# Altium schematic symbol library 2.1 - STM32系列单片机.SchLib: 370 symbols (part 10 of 21)
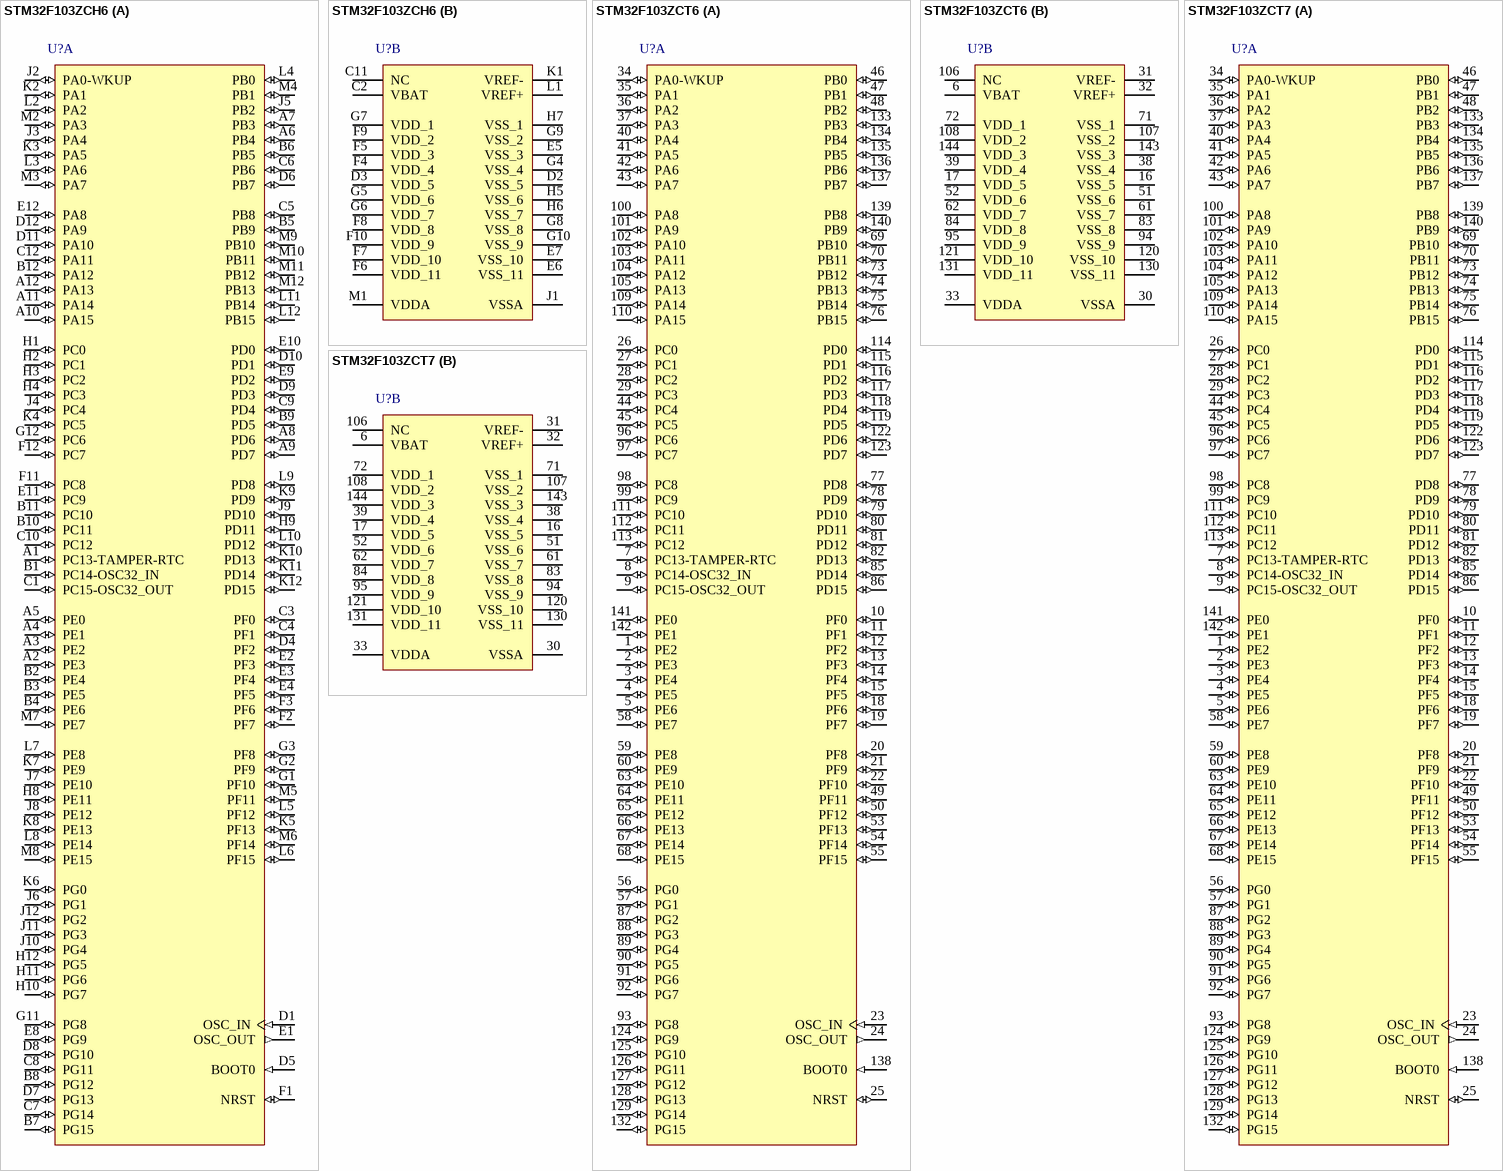
[diagram p107: symbols STM32F103ZCH6 to STM32F103ZCT7]

## STM32F103ZCT6
designator U?
STM32 ARM-based 32-bit MCU Performance Line with 256 kB Flash, 48 kB Internal RAM, -40 to +85癈 Temperature, 144-Pin LQFP, Tray; 联系卖家，免费查找封装: 唯一出售店铺网址https://shop463601444.taobao.com; DatasheetVersion: rev8.0, Apr-2011; PackageVersion: 2011; PackageReference: LQFP144; PackageDescription: 144-Pin Thin Quad Flat Pack 0.5 mm Pitch; ComponentLink1Description: Manufacturer URL; ComponentLink1URL: http://www.st.com/; ComponentLink2Description: STM32F103 Datasheet; ComponentLink2URL: http://www.st.com/internet/com/TECHNICAL_RESOURCES/TECHNICAL_LITERATURE/DATASHEET/CD00191185.pdf; ComponentLink3Description: STM32 Family Web Page; ComponentLink3URL: www.st.com/stm32
footprint LQFP144_N (Thin QFP, 144-Leads, Body 20x20mm, Pitch 0.5mm, IPC Medium Density)
footprint LQFP144_L (Thin QFP, 144-Leads, Body 20x20mm, Pitch 0.5mm, IPC High Density)
footprint LQFP144_M (Thin QFP, 144-Leads, Body 20x20mm, Pitch 0.5mm, IPC Low Density)
part A pins: 1 PE2 (io), 2 PE3 (io), 3 PE4 (io), 4 PE5 (io), 5 PE6 (io), 7 PC13-TAMPER-RTC (io), 8 PC14-OSC32_IN (io), 9 PC15-OSC32_OUT (io), 10 PF0 (io), 11 PF1 (io), 12 PF2 (io), 13 PF3 (io), 14 PF4 (io), 15 PF5 (io), 18 PF6 (io), 19 PF7 (io), 20 PF8 (io), 21 PF9 (io), 22 PF10 (io), 23 OSC_IN (in), 24 OSC_OUT (out), 25 NRST (io), 26 PC0 (io), 27 PC1 (io), 28 PC2 (io), 29 PC3 (io), 34 PA0-WKUP (io), 35 PA1 (io), 36 PA2 (io), 37 PA3 (io), 40 PA4 (io), 41 PA5 (io), 42 PA6 (io), 43 PA7 (io), 44 PC4 (io), 45 PC5 (io), 46 PB0 (io), 47 PB1 (io), 48 PB2 (io), 49 PF11 (io), 50 PF12 (io), 53 PF13 (io), 54 PF14 (io), 55 PF15 (io), 56 PG0 (io), 57 PG1 (io), 58 PE7 (io), 59 PE8 (io), 60 PE9 (io), 63 PE10 (io), 64 PE11 (io), 65 PE12 (io), 66 PE13 (io), 67 PE14 (io), 68 PE15 (io), 69 PB10 (io), 70 PB11 (io), 73 PB12 (io), 74 PB13 (io), 75 PB14 (io), 76 PB15 (io), 77 PD8 (io), 78 PD9 (io), 79 PD10 (io), 80 PD11 (io), 81 PD12 (io), 82 PD13 (io), 85 PD14 (io), 86 PD15 (io), 87 PG2 (io), 88 PG3 (io), 89 PG4 (io), 90 PG5 (io), 91 PG6 (io), 92 PG7 (io), 93 PG8 (io), 96 PC6 (io), 97 PC7 (io), 98 PC8 (io), 99 PC9 (io), 100 PA8 (io), 101 PA9 (io), 102 PA10 (io), 103 PA11 (io), 104 PA12 (io), 105 PA13 (io), 109 PA14 (io), 110 PA15 (io), 111 PC10 (io), 112 PC11 (io), 113 PC12 (io), 114 PD0 (io), 115 PD1 (io), 116 PD2 (io), 117 PD3 (io), 118 PD4 (io), 119 PD5 (io), 122 PD6 (io), 123 PD7 (io), 124 PG9 (io), 125 PG10 (io), 126 PG11 (io), 127 PG12 (io), 128 PG13 (io), 129 PG14 (io), 132 PG15 (io), 133 PB3 (io), 134 PB4 (io), 135 PB5 (io), 136 PB6 (io), 137 PB7 (io), 138 BOOT0 (in), 139 PB8 (io), 140 PB9 (io), 141 PE0 (io), 142 PE1 (io)
part B pins: 6 VBAT (power), 16 VSS_5 (power), 17 VDD_5 (power), 30 VSSA (power), 31 VREF- (power), 32 VREF+ (power), 33 VDDA (power), 38 VSS_4 (power), 39 VDD_4 (power), 51 VSS_6 (power), 52 VDD_6 (power), 61 VSS_7 (power), 62 VDD_7 (power), 71 VSS_1 (power), 72 VDD_1 (power), 83 VSS_8 (power), 84 VDD_8 (power), 94 VSS_9 (power), 95 VDD_9 (power), 106 NC, 107 VSS_2 (power), 108 VDD_2 (power), 120 VSS_10 (power), 121 VDD_10 (power), 130 VSS_11 (power), 131 VDD_11 (power), 143 VSS_3 (power), 144 VDD_3 (power)

## STM32F103ZCT7
designator U?
STM32 ARM-based 32-bit MCU Performance Line with 256 kB Flash, 48 kB Internal RAM, -40 to +105癈 Temperature, 144-Pin LQFP, Tray; 联系卖家，免费查找封装: 唯一出售店铺网址https://shop463601444.taobao.com; DatasheetVersion: rev8.0, Apr-2011; PackageVersion: 2011; PackageReference: LQFP144; PackageDescription: 144-Pin Thin Quad Flat Pack 0.5 mm Pitch; ComponentLink1Description: Manufacturer URL; ComponentLink1URL: http://www.st.com/; ComponentLink2Description: STM32F103 Datasheet; ComponentLink2URL: http://www.st.com/internet/com/TECHNICAL_RESOURCES/TECHNICAL_LITERATURE/DATASHEET/CD00191185.pdf; ComponentLink3Description: STM32 Family Web Page; ComponentLink3URL: www.st.com/stm32
footprint LQFP144_N (Thin QFP, 144-Leads, Body 20x20mm, Pitch 0.5mm, IPC Medium Density)
footprint LQFP144_L (Thin QFP, 144-Leads, Body 20x20mm, Pitch 0.5mm, IPC High Density)
footprint LQFP144_M (Thin QFP, 144-Leads, Body 20x20mm, Pitch 0.5mm, IPC Low Density)
part A pins: 1 PE2 (io), 2 PE3 (io), 3 PE4 (io), 4 PE5 (io), 5 PE6 (io), 7 PC13-TAMPER-RTC (io), 8 PC14-OSC32_IN (io), 9 PC15-OSC32_OUT (io), 10 PF0 (io), 11 PF1 (io), 12 PF2 (io), 13 PF3 (io), 14 PF4 (io), 15 PF5 (io), 18 PF6 (io), 19 PF7 (io), 20 PF8 (io), 21 PF9 (io), 22 PF10 (io), 23 OSC_IN (in), 24 OSC_OUT (out), 25 NRST (io), 26 PC0 (io), 27 PC1 (io), 28 PC2 (io), 29 PC3 (io), 34 PA0-WKUP (io), 35 PA1 (io), 36 PA2 (io), 37 PA3 (io), 40 PA4 (io), 41 PA5 (io), 42 PA6 (io), 43 PA7 (io), 44 PC4 (io), 45 PC5 (io), 46 PB0 (io), 47 PB1 (io), 48 PB2 (io), 49 PF11 (io), 50 PF12 (io), 53 PF13 (io), 54 PF14 (io), 55 PF15 (io), 56 PG0 (io), 57 PG1 (io), 58 PE7 (io), 59 PE8 (io), 60 PE9 (io), 63 PE10 (io), 64 PE11 (io), 65 PE12 (io), 66 PE13 (io), 67 PE14 (io), 68 PE15 (io), 69 PB10 (io), 70 PB11 (io), 73 PB12 (io), 74 PB13 (io), 75 PB14 (io), 76 PB15 (io), 77 PD8 (io), 78 PD9 (io), 79 PD10 (io), 80 PD11 (io), 81 PD12 (io), 82 PD13 (io), 85 PD14 (io), 86 PD15 (io), 87 PG2 (io), 88 PG3 (io), 89 PG4 (io), 90 PG5 (io), 91 PG6 (io), 92 PG7 (io), 93 PG8 (io), 96 PC6 (io), 97 PC7 (io), 98 PC8 (io), 99 PC9 (io), 100 PA8 (io), 101 PA9 (io), 102 PA10 (io), 103 PA11 (io), 104 PA12 (io), 105 PA13 (io), 109 PA14 (io), 110 PA15 (io), 111 PC10 (io), 112 PC11 (io), 113 PC12 (io), 114 PD0 (io), 115 PD1 (io), 116 PD2 (io), 117 PD3 (io), 118 PD4 (io), 119 PD5 (io), 122 PD6 (io), 123 PD7 (io), 124 PG9 (io), 125 PG10 (io), 126 PG11 (io), 127 PG12 (io), 128 PG13 (io), 129 PG14 (io), 132 PG15 (io), 133 PB3 (io), 134 PB4 (io), 135 PB5 (io), 136 PB6 (io), 137 PB7 (io), 138 BOOT0 (in), 139 PB8 (io), 140 PB9 (io), 141 PE0 (io), 142 PE1 (io)
part B pins: 6 VBAT (power), 16 VSS_5 (power), 17 VDD_5 (power), 30 VSSA (power), 31 VREF- (power), 32 VREF+ (power), 33 VDDA (power), 38 VSS_4 (power), 39 VDD_4 (power), 51 VSS_6 (power), 52 VDD_6 (power), 61 VSS_7 (power), 62 VDD_7 (power), 71 VSS_1 (power), 72 VDD_1 (power), 83 VSS_8 (power), 84 VDD_8 (power), 94 VSS_9 (power), 95 VDD_9 (power), 106 NC, 107 VSS_2 (power), 108 VDD_2 (power), 120 VSS_10 (power), 121 VDD_10 (power), 130 VSS_11 (power), 131 VDD_11 (power), 143 VSS_3 (power), 144 VDD_3 (power)

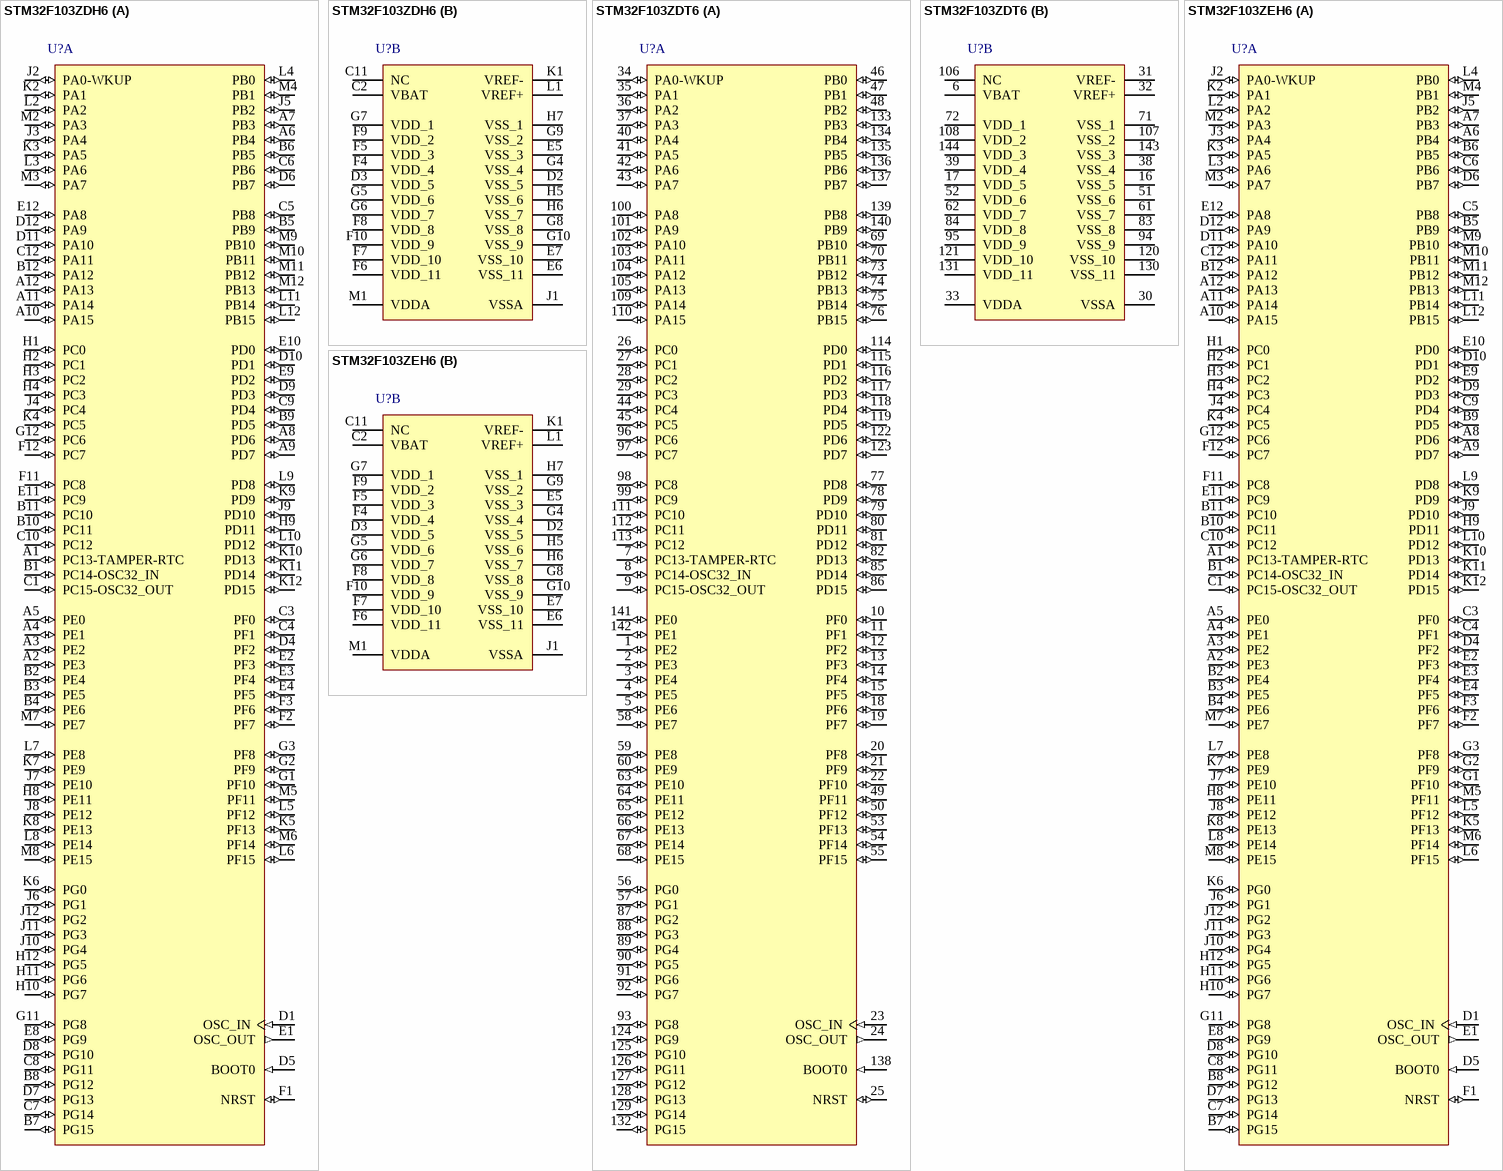
[diagram p44: symbols STM32F103ZDH6 to STM32F103ZEH6]

## STM32F103ZDH6
designator U?
STM32 ARM-based 32-bit MCU Performance Line with 384 kB Flash, 64 kB Internal RAM, -40 to +85癈 Temperature, 144-Pin LFBGA, Tray; 联系卖家，免费查找封装: 唯一出售店铺网址https://shop463601444.taobao.com; DatasheetVersion: rev8.0, Apr-2011; PackageVersion: rev13, Apr-2011; PackageReference: LFBGA144; PackageDescription: 144-Ball Low Profile Fine Pitch BGA, 10 x 10 x 1.7 mm Body, 0.8 mm Pitch (LFBGA144); ComponentLink1Description: Manufacturer URL; ComponentLink1URL: http://www.st.com/; ComponentLink2Description: STM32F103 Datasheet; ComponentLink2URL: http://www.st.com/internet/com/TECHNICAL_RESOURCES/TECHNICAL_LITERATURE/DATASHEET/CD00191185.pdf; ComponentLink3Description: STM32 Family Web Page; ComponentLink3URL: www.st.com/stm32
footprint LFBGA144 (BGA, 144-Leads, Body 10x10mm, Pitch 0.8mm)
part A pins: A1 PC13-TAMPER-RTC (io), A2 PE3 (io), A3 PE2 (io), A4 PE1 (io), A5 PE0 (io), A6 PB4 (io), A7 PB3 (io), A8 PD6 (io), A9 PD7 (io), A10 PA15 (io), A11 PA14 (io), A12 PA13 (io), B1 PC14-OSC32_IN (io), B2 PE4 (io), B3 PE5 (io), B4 PE6 (io), B5 PB9 (io), B6 PB5 (io), B7 PG15 (io), B8 PG12 (io), B9 PD5 (io), B10 PC11 (io), B11 PC10 (io), B12 PA12 (io), C1 PC15-OSC32_OUT (io), C3 PF0 (io), C4 PF1 (io), C5 PB8 (io), C6 PB6 (io), C7 PG14 (io), C8 PG11 (io), C9 PD4 (io), C10 PC12 (io), C12 PA11 (io), D1 OSC_IN (in), D4 PF2 (io), D5 BOOT0 (in), D6 PB7 (io), D7 PG13 (io), D8 PG10 (io), D9 PD3 (io), D10 PD1 (io), D11 PA10 (io), D12 PA9 (io), E1 OSC_OUT (out), E2 PF3 (io), E3 PF4 (io), E4 PF5 (io), E8 PG9 (io), E9 PD2 (io), E10 PD0 (io), E11 PC9 (io), E12 PA8 (io), F1 NRST (io), F2 PF7 (io), F3 PF6 (io), F11 PC8 (io), F12 PC7 (io), G1 PF10 (io), G2 PF9 (io), G3 PF8 (io), G11 PG8 (io), G12 PC6 (io), H1 PC0 (io), H2 PC1 (io), H3 PC2 (io), H4 PC3 (io), H8 PE11 (io), H9 PD11 (io), H10 PG7 (io), H11 PG6 (io), H12 PG5 (io), J2 PA0-WKUP (io), J3 PA4 (io), J4 PC4 (io), J5 PB2 (io), J6 PG1 (io), J7 PE10 (io), J8 PE12 (io), J9 PD10 (io), J10 PG4 (io), J11 PG3 (io), J12 PG2 (io), K2 PA1 (io), K3 PA5 (io), K4 PC5 (io), K5 PF13 (io), K6 PG0 (io), K7 PE9 (io), K8 PE13 (io), K9 PD9 (io), K10 PD13 (io), K11 PD14 (io), K12 PD15 (io), L2 PA2 (io), L3 PA6 (io), L4 PB0 (io), L5 PF12 (io), L6 PF15 (io), L7 PE8 (io), L8 PE14 (io), L9 PD8 (io), L10 PD12 (io), L11 PB14 (io), L12 PB15 (io), M2 PA3 (io), M3 PA7 (io), M4 PB1 (io), M5 PF11 (io), M6 PF14 (io), M7 PE7 (io), M8 PE15 (io), M9 PB10 (io), M10 PB11 (io), M11 PB12 (io), M12 PB13 (io)
part B pins: C2 VBAT (power), C11 NC, D2 VSS_5 (power), D3 VDD_5 (power), E5 VSS_3 (power), E6 VSS_11 (power), E7 VSS_10 (power), F4 VDD_4 (power), F5 VDD_3 (power), F6 VDD_11 (power), F7 VDD_10 (power), F8 VDD_8 (power), F9 VDD_2 (power), F10 VDD_9 (power), G4 VSS_4 (power), G5 VDD_6 (power), G6 VDD_7 (power), G7 VDD_1 (power), G8 VSS_8 (power), G9 VSS_2 (power), G10 VSS_9 (power), H5 VSS_6 (power), H6 VSS_7 (power), H7 VSS_1 (power), J1 VSSA (power), K1 VREF- (power), L1 VREF+ (power), M1 VDDA (power)

## STM32F103ZDT6
designator U?
STM32 ARM-based 32-bit MCU Performance Line with 384 kB Flash, 64 kB Internal RAM, -40 to +85癈 Temperature, 144-Pin LQFP, Tray; 联系卖家，免费查找封装: 唯一出售店铺网址https://shop463601444.taobao.com; DatasheetVersion: rev8.0, Apr-2011; PackageVersion: 2011; PackageReference: LQFP144; PackageDescription: 144-Pin Thin Quad Flat Pack 0.5 mm Pitch; ComponentLink1Description: Manufacturer URL; ComponentLink1URL: http://www.st.com/; ComponentLink2Description: STM32F103 Datasheet; ComponentLink2URL: http://www.st.com/internet/com/TECHNICAL_RESOURCES/TECHNICAL_LITERATURE/DATASHEET/CD00191185.pdf; ComponentLink3Description: STM32 Family Web Page; ComponentLink3URL: www.st.com/stm32
footprint LQFP144_N (Thin QFP, 144-Leads, Body 20x20mm, Pitch 0.5mm, IPC Medium Density)
footprint LQFP144_L (Thin QFP, 144-Leads, Body 20x20mm, Pitch 0.5mm, IPC High Density)
footprint LQFP144_M (Thin QFP, 144-Leads, Body 20x20mm, Pitch 0.5mm, IPC Low Density)
part A pins: 1 PE2 (io), 2 PE3 (io), 3 PE4 (io), 4 PE5 (io), 5 PE6 (io), 7 PC13-TAMPER-RTC (io), 8 PC14-OSC32_IN (io), 9 PC15-OSC32_OUT (io), 10 PF0 (io), 11 PF1 (io), 12 PF2 (io), 13 PF3 (io), 14 PF4 (io), 15 PF5 (io), 18 PF6 (io), 19 PF7 (io), 20 PF8 (io), 21 PF9 (io), 22 PF10 (io), 23 OSC_IN (in), 24 OSC_OUT (out), 25 NRST (io), 26 PC0 (io), 27 PC1 (io), 28 PC2 (io), 29 PC3 (io), 34 PA0-WKUP (io), 35 PA1 (io), 36 PA2 (io), 37 PA3 (io), 40 PA4 (io), 41 PA5 (io), 42 PA6 (io), 43 PA7 (io), 44 PC4 (io), 45 PC5 (io), 46 PB0 (io), 47 PB1 (io), 48 PB2 (io), 49 PF11 (io), 50 PF12 (io), 53 PF13 (io), 54 PF14 (io), 55 PF15 (io), 56 PG0 (io), 57 PG1 (io), 58 PE7 (io), 59 PE8 (io), 60 PE9 (io), 63 PE10 (io), 64 PE11 (io), 65 PE12 (io), 66 PE13 (io), 67 PE14 (io), 68 PE15 (io), 69 PB10 (io), 70 PB11 (io), 73 PB12 (io), 74 PB13 (io), 75 PB14 (io), 76 PB15 (io), 77 PD8 (io), 78 PD9 (io), 79 PD10 (io), 80 PD11 (io), 81 PD12 (io), 82 PD13 (io), 85 PD14 (io), 86 PD15 (io), 87 PG2 (io), 88 PG3 (io), 89 PG4 (io), 90 PG5 (io), 91 PG6 (io), 92 PG7 (io), 93 PG8 (io), 96 PC6 (io), 97 PC7 (io), 98 PC8 (io), 99 PC9 (io), 100 PA8 (io), 101 PA9 (io), 102 PA10 (io), 103 PA11 (io), 104 PA12 (io), 105 PA13 (io), 109 PA14 (io), 110 PA15 (io), 111 PC10 (io), 112 PC11 (io), 113 PC12 (io), 114 PD0 (io), 115 PD1 (io), 116 PD2 (io), 117 PD3 (io), 118 PD4 (io), 119 PD5 (io), 122 PD6 (io), 123 PD7 (io), 124 PG9 (io), 125 PG10 (io), 126 PG11 (io), 127 PG12 (io), 128 PG13 (io), 129 PG14 (io), 132 PG15 (io), 133 PB3 (io), 134 PB4 (io), 135 PB5 (io), 136 PB6 (io), 137 PB7 (io), 138 BOOT0 (in), 139 PB8 (io), 140 PB9 (io), 141 PE0 (io), 142 PE1 (io)
part B pins: 6 VBAT (power), 16 VSS_5 (power), 17 VDD_5 (power), 30 VSSA (power), 31 VREF- (power), 32 VREF+ (power), 33 VDDA (power), 38 VSS_4 (power), 39 VDD_4 (power), 51 VSS_6 (power), 52 VDD_6 (power), 61 VSS_7 (power), 62 VDD_7 (power), 71 VSS_1 (power), 72 VDD_1 (power), 83 VSS_8 (power), 84 VDD_8 (power), 94 VSS_9 (power), 95 VDD_9 (power), 106 NC, 107 VSS_2 (power), 108 VDD_2 (power), 120 VSS_10 (power), 121 VDD_10 (power), 130 VSS_11 (power), 131 VDD_11 (power), 143 VSS_3 (power), 144 VDD_3 (power)

## STM32F103ZEH6
designator U?
STM32 ARM-based 32-bit MCU Performance Line with 512 kB Flash, 64 kB Internal RAM, -40 to +85癈 Temperature, 144-Pin LFBGA, Tray; 联系卖家，免费查找封装: 唯一出售店铺网址https://shop463601444.taobao.com; DatasheetVersion: rev8.0, Apr-2011; PackageVersion: rev13, Apr-2011; PackageReference: LFBGA144; PackageDescription: 144-Ball Low Profile Fine Pitch BGA, 10 x 10 x 1.7 mm Body, 0.8 mm Pitch (LFBGA144); ComponentLink1Description: Manufacturer URL; ComponentLink1URL: http://www.st.com/; ComponentLink2Description: STM32F103 Datasheet; ComponentLink2URL: http://www.st.com/internet/com/TECHNICAL_RESOURCES/TECHNICAL_LITERATURE/DATASHEET/CD00191185.pdf; ComponentLink3Description: STM32 Family Web Page; ComponentLink3URL: www.st.com/stm32
footprint LFBGA144 (BGA, 144-Leads, Body 10x10mm, Pitch 0.8mm)
part A pins: A1 PC13-TAMPER-RTC (io), A2 PE3 (io), A3 PE2 (io), A4 PE1 (io), A5 PE0 (io), A6 PB4 (io), A7 PB3 (io), A8 PD6 (io), A9 PD7 (io), A10 PA15 (io), A11 PA14 (io), A12 PA13 (io), B1 PC14-OSC32_IN (io), B2 PE4 (io), B3 PE5 (io), B4 PE6 (io), B5 PB9 (io), B6 PB5 (io), B7 PG15 (io), B8 PG12 (io), B9 PD5 (io), B10 PC11 (io), B11 PC10 (io), B12 PA12 (io), C1 PC15-OSC32_OUT (io), C3 PF0 (io), C4 PF1 (io), C5 PB8 (io), C6 PB6 (io), C7 PG14 (io), C8 PG11 (io), C9 PD4 (io), C10 PC12 (io), C12 PA11 (io), D1 OSC_IN (in), D4 PF2 (io), D5 BOOT0 (in), D6 PB7 (io), D7 PG13 (io), D8 PG10 (io), D9 PD3 (io), D10 PD1 (io), D11 PA10 (io), D12 PA9 (io), E1 OSC_OUT (out), E2 PF3 (io), E3 PF4 (io), E4 PF5 (io), E8 PG9 (io), E9 PD2 (io), E10 PD0 (io), E11 PC9 (io), E12 PA8 (io), F1 NRST (io), F2 PF7 (io), F3 PF6 (io), F11 PC8 (io), F12 PC7 (io), G1 PF10 (io), G2 PF9 (io), G3 PF8 (io), G11 PG8 (io), G12 PC6 (io), H1 PC0 (io), H2 PC1 (io), H3 PC2 (io), H4 PC3 (io), H8 PE11 (io), H9 PD11 (io), H10 PG7 (io), H11 PG6 (io), H12 PG5 (io), J2 PA0-WKUP (io), J3 PA4 (io), J4 PC4 (io), J5 PB2 (io), J6 PG1 (io), J7 PE10 (io), J8 PE12 (io), J9 PD10 (io), J10 PG4 (io), J11 PG3 (io), J12 PG2 (io), K2 PA1 (io), K3 PA5 (io), K4 PC5 (io), K5 PF13 (io), K6 PG0 (io), K7 PE9 (io), K8 PE13 (io), K9 PD9 (io), K10 PD13 (io), K11 PD14 (io), K12 PD15 (io), L2 PA2 (io), L3 PA6 (io), L4 PB0 (io), L5 PF12 (io), L6 PF15 (io), L7 PE8 (io), L8 PE14 (io), L9 PD8 (io), L10 PD12 (io), L11 PB14 (io), L12 PB15 (io), M2 PA3 (io), M3 PA7 (io), M4 PB1 (io), M5 PF11 (io), M6 PF14 (io), M7 PE7 (io), M8 PE15 (io), M9 PB10 (io), M10 PB11 (io), M11 PB12 (io), M12 PB13 (io)
part B pins: C2 VBAT (power), C11 NC, D2 VSS_5 (power), D3 VDD_5 (power), E5 VSS_3 (power), E6 VSS_11 (power), E7 VSS_10 (power), F4 VDD_4 (power), F5 VDD_3 (power), F6 VDD_11 (power), F7 VDD_10 (power), F8 VDD_8 (power), F9 VDD_2 (power), F10 VDD_9 (power), G4 VSS_4 (power), G5 VDD_6 (power), G6 VDD_7 (power), G7 VDD_1 (power), G8 VSS_8 (power), G9 VSS_2 (power), G10 VSS_9 (power), H5 VSS_6 (power), H6 VSS_7 (power), H7 VSS_1 (power), J1 VSSA (power), K1 VREF- (power), L1 VREF+ (power), M1 VDDA (power)

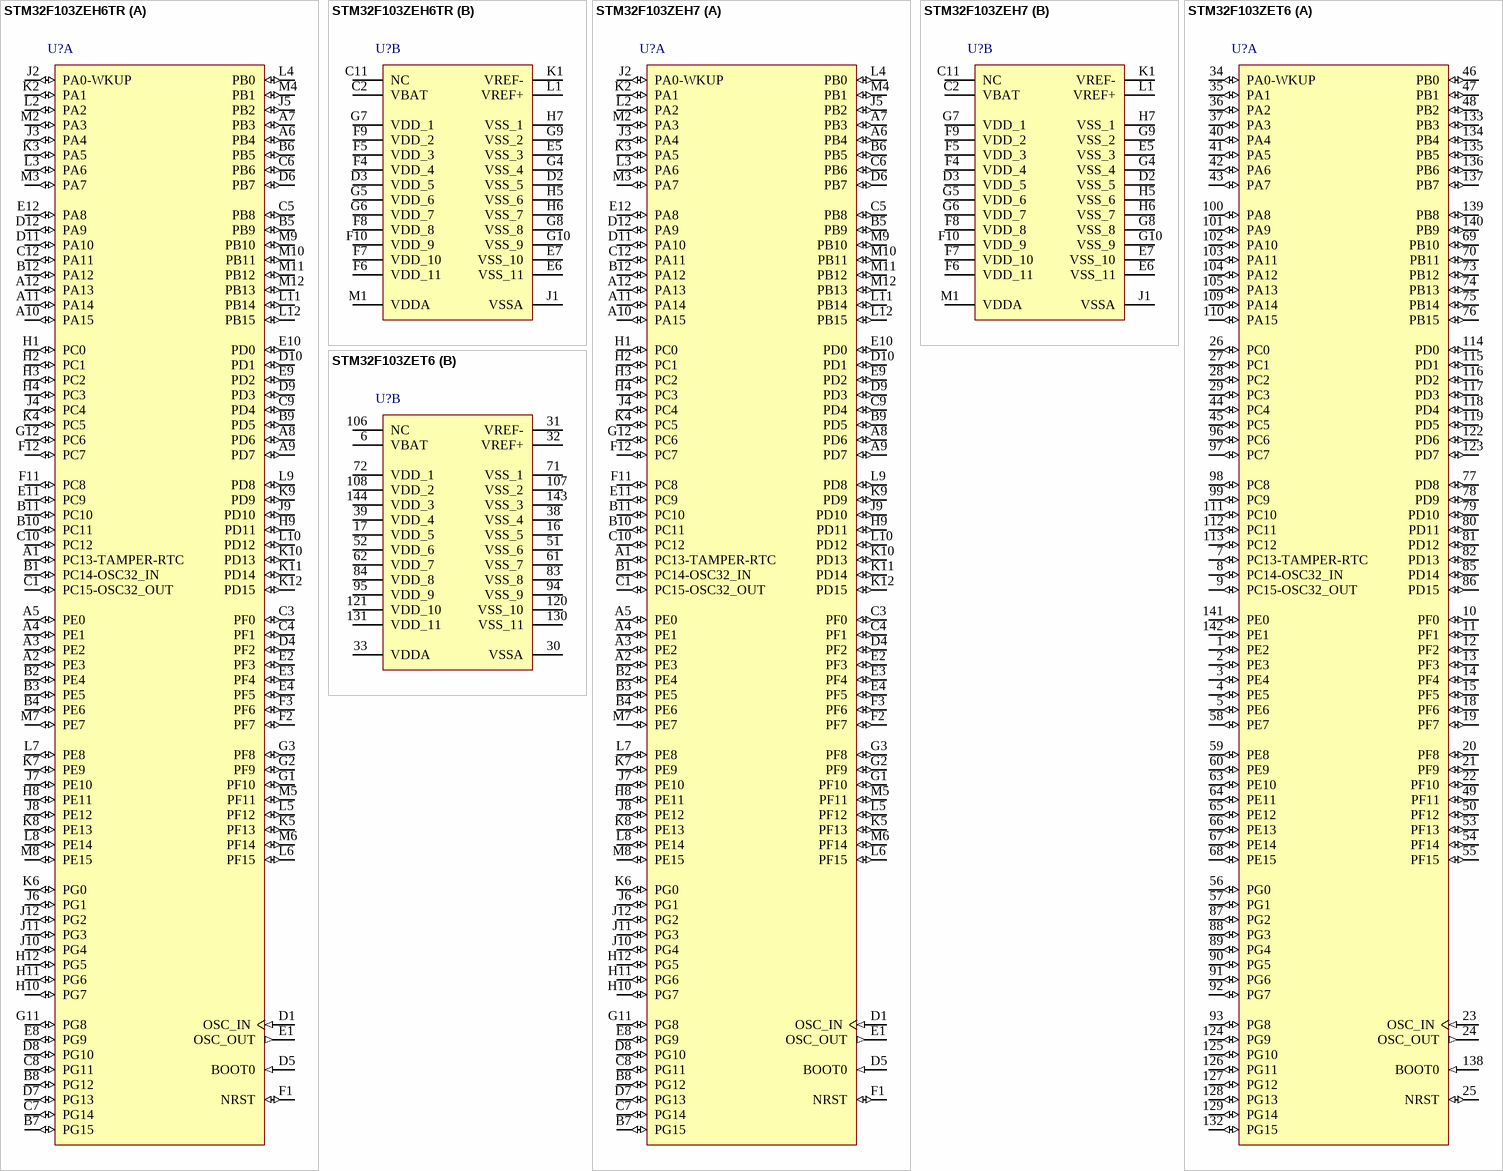
[diagram p45: symbols STM32F103ZEH6TR to STM32F103ZET6]

## STM32F103ZEH6TR
designator U?
STM32 ARM-based 32-bit MCU Performance Line with 512 kB Flash, 64 kB Internal RAM, -40 to +85癈 Temperature, 144-Pin LFBGA, Tape and Reel; 联系卖家，免费查找封装: 唯一出售店铺网址https://shop463601444.taobao.com; DatasheetVersion: rev8.0, Apr-2011; PackageVersion: rev13, Apr-2011; PackageReference: LFBGA144; PackageDescription: 144-Ball Low Profile Fine Pitch BGA, 10 x 10 x 1.7 mm Body, 0.8 mm Pitch (LFBGA144); ComponentLink1Description: Manufacturer URL; ComponentLink1URL: http://www.st.com/; ComponentLink2Description: STM32F103 Datasheet; ComponentLink2URL: http://www.st.com/internet/com/TECHNICAL_RESOURCES/TECHNICAL_LITERATURE/DATASHEET/CD00191185.pdf; ComponentLink3Description: STM32 Family Web Page; ComponentLink3URL: www.st.com/stm32
footprint LFBGA144 (BGA, 144-Leads, Body 10x10mm, Pitch 0.8mm)
part A pins: A1 PC13-TAMPER-RTC (io), A2 PE3 (io), A3 PE2 (io), A4 PE1 (io), A5 PE0 (io), A6 PB4 (io), A7 PB3 (io), A8 PD6 (io), A9 PD7 (io), A10 PA15 (io), A11 PA14 (io), A12 PA13 (io), B1 PC14-OSC32_IN (io), B2 PE4 (io), B3 PE5 (io), B4 PE6 (io), B5 PB9 (io), B6 PB5 (io), B7 PG15 (io), B8 PG12 (io), B9 PD5 (io), B10 PC11 (io), B11 PC10 (io), B12 PA12 (io), C1 PC15-OSC32_OUT (io), C3 PF0 (io), C4 PF1 (io), C5 PB8 (io), C6 PB6 (io), C7 PG14 (io), C8 PG11 (io), C9 PD4 (io), C10 PC12 (io), C12 PA11 (io), D1 OSC_IN (in), D4 PF2 (io), D5 BOOT0 (in), D6 PB7 (io), D7 PG13 (io), D8 PG10 (io), D9 PD3 (io), D10 PD1 (io), D11 PA10 (io), D12 PA9 (io), E1 OSC_OUT (out), E2 PF3 (io), E3 PF4 (io), E4 PF5 (io), E8 PG9 (io), E9 PD2 (io), E10 PD0 (io), E11 PC9 (io), E12 PA8 (io), F1 NRST (io), F2 PF7 (io), F3 PF6 (io), F11 PC8 (io), F12 PC7 (io), G1 PF10 (io), G2 PF9 (io), G3 PF8 (io), G11 PG8 (io), G12 PC6 (io), H1 PC0 (io), H2 PC1 (io), H3 PC2 (io), H4 PC3 (io), H8 PE11 (io), H9 PD11 (io), H10 PG7 (io), H11 PG6 (io), H12 PG5 (io), J2 PA0-WKUP (io), J3 PA4 (io), J4 PC4 (io), J5 PB2 (io), J6 PG1 (io), J7 PE10 (io), J8 PE12 (io), J9 PD10 (io), J10 PG4 (io), J11 PG3 (io), J12 PG2 (io), K2 PA1 (io), K3 PA5 (io), K4 PC5 (io), K5 PF13 (io), K6 PG0 (io), K7 PE9 (io), K8 PE13 (io), K9 PD9 (io), K10 PD13 (io), K11 PD14 (io), K12 PD15 (io), L2 PA2 (io), L3 PA6 (io), L4 PB0 (io), L5 PF12 (io), L6 PF15 (io), L7 PE8 (io), L8 PE14 (io), L9 PD8 (io), L10 PD12 (io), L11 PB14 (io), L12 PB15 (io), M2 PA3 (io), M3 PA7 (io), M4 PB1 (io), M5 PF11 (io), M6 PF14 (io), M7 PE7 (io), M8 PE15 (io), M9 PB10 (io), M10 PB11 (io), M11 PB12 (io), M12 PB13 (io)
part B pins: C2 VBAT (power), C11 NC, D2 VSS_5 (power), D3 VDD_5 (power), E5 VSS_3 (power), E6 VSS_11 (power), E7 VSS_10 (power), F4 VDD_4 (power), F5 VDD_3 (power), F6 VDD_11 (power), F7 VDD_10 (power), F8 VDD_8 (power), F9 VDD_2 (power), F10 VDD_9 (power), G4 VSS_4 (power), G5 VDD_6 (power), G6 VDD_7 (power), G7 VDD_1 (power), G8 VSS_8 (power), G9 VSS_2 (power), G10 VSS_9 (power), H5 VSS_6 (power), H6 VSS_7 (power), H7 VSS_1 (power), J1 VSSA (power), K1 VREF- (power), L1 VREF+ (power), M1 VDDA (power)

## STM32F103ZEH7
designator U?
STM32 ARM-based 32-bit MCU Performance Line with 512 kB Flash, 64 kB Internal RAM, -40 to +105癈 Temperature, 144-Pin LFBGA, Tray; 联系卖家，免费查找封装: 唯一出售店铺网址https://shop463601444.taobao.com; DatasheetVersion: rev8.0, Apr-2011; PackageVersion: rev13, Apr-2011; PackageReference: LFBGA144; PackageDescription: 144-Ball Low Profile Fine Pitch BGA, 10 x 10 x 1.7 mm Body, 0.8 mm Pitch (LFBGA144); ComponentLink1Description: Manufacturer URL; ComponentLink1URL: http://www.st.com/; ComponentLink2Description: STM32F103 Datasheet; ComponentLink2URL: http://www.st.com/internet/com/TECHNICAL_RESOURCES/TECHNICAL_LITERATURE/DATASHEET/CD00191185.pdf; ComponentLink3Description: STM32 Family Web Page; ComponentLink3URL: www.st.com/stm32
footprint LFBGA144 (BGA, 144-Leads, Body 10x10mm, Pitch 0.8mm)
part A pins: A1 PC13-TAMPER-RTC (io), A2 PE3 (io), A3 PE2 (io), A4 PE1 (io), A5 PE0 (io), A6 PB4 (io), A7 PB3 (io), A8 PD6 (io), A9 PD7 (io), A10 PA15 (io), A11 PA14 (io), A12 PA13 (io), B1 PC14-OSC32_IN (io), B2 PE4 (io), B3 PE5 (io), B4 PE6 (io), B5 PB9 (io), B6 PB5 (io), B7 PG15 (io), B8 PG12 (io), B9 PD5 (io), B10 PC11 (io), B11 PC10 (io), B12 PA12 (io), C1 PC15-OSC32_OUT (io), C3 PF0 (io), C4 PF1 (io), C5 PB8 (io), C6 PB6 (io), C7 PG14 (io), C8 PG11 (io), C9 PD4 (io), C10 PC12 (io), C12 PA11 (io), D1 OSC_IN (in), D4 PF2 (io), D5 BOOT0 (in), D6 PB7 (io), D7 PG13 (io), D8 PG10 (io), D9 PD3 (io), D10 PD1 (io), D11 PA10 (io), D12 PA9 (io), E1 OSC_OUT (out), E2 PF3 (io), E3 PF4 (io), E4 PF5 (io), E8 PG9 (io), E9 PD2 (io), E10 PD0 (io), E11 PC9 (io), E12 PA8 (io), F1 NRST (io), F2 PF7 (io), F3 PF6 (io), F11 PC8 (io), F12 PC7 (io), G1 PF10 (io), G2 PF9 (io), G3 PF8 (io), G11 PG8 (io), G12 PC6 (io), H1 PC0 (io), H2 PC1 (io), H3 PC2 (io), H4 PC3 (io), H8 PE11 (io), H9 PD11 (io), H10 PG7 (io), H11 PG6 (io), H12 PG5 (io), J2 PA0-WKUP (io), J3 PA4 (io), J4 PC4 (io), J5 PB2 (io), J6 PG1 (io), J7 PE10 (io), J8 PE12 (io), J9 PD10 (io), J10 PG4 (io), J11 PG3 (io), J12 PG2 (io), K2 PA1 (io), K3 PA5 (io), K4 PC5 (io), K5 PF13 (io), K6 PG0 (io), K7 PE9 (io), K8 PE13 (io), K9 PD9 (io), K10 PD13 (io), K11 PD14 (io), K12 PD15 (io), L2 PA2 (io), L3 PA6 (io), L4 PB0 (io), L5 PF12 (io), L6 PF15 (io), L7 PE8 (io), L8 PE14 (io), L9 PD8 (io), L10 PD12 (io), L11 PB14 (io), L12 PB15 (io), M2 PA3 (io), M3 PA7 (io), M4 PB1 (io), M5 PF11 (io), M6 PF14 (io), M7 PE7 (io), M8 PE15 (io), M9 PB10 (io), M10 PB11 (io), M11 PB12 (io), M12 PB13 (io)
part B pins: C2 VBAT (power), C11 NC, D2 VSS_5 (power), D3 VDD_5 (power), E5 VSS_3 (power), E6 VSS_11 (power), E7 VSS_10 (power), F4 VDD_4 (power), F5 VDD_3 (power), F6 VDD_11 (power), F7 VDD_10 (power), F8 VDD_8 (power), F9 VDD_2 (power), F10 VDD_9 (power), G4 VSS_4 (power), G5 VDD_6 (power), G6 VDD_7 (power), G7 VDD_1 (power), G8 VSS_8 (power), G9 VSS_2 (power), G10 VSS_9 (power), H5 VSS_6 (power), H6 VSS_7 (power), H7 VSS_1 (power), J1 VSSA (power), K1 VREF- (power), L1 VREF+ (power), M1 VDDA (power)

## STM32F103ZET6
designator U?
STM32 ARM-based 32-bit MCU Performance Line with 512 kB Flash, 64 kB Internal RAM, -40 to +85癈 Temperature, 144-Pin LQFP, Tray; 联系卖家，免费查找封装: 唯一出售店铺网址https://shop463601444.taobao.com; DatasheetVersion: rev8.0, Apr-2011; PackageVersion: 2011; PackageReference: LQFP144; PackageDescription: 144-Pin Thin Quad Flat Pack 0.5 mm Pitch; ComponentLink1Description: Manufacturer URL; ComponentLink1URL: http://www.st.com/; ComponentLink2Description: STM32F103 Datasheet; ComponentLink2URL: http://www.st.com/internet/com/TECHNICAL_RESOURCES/TECHNICAL_LITERATURE/DATASHEET/CD00191185.pdf; ComponentLink3Description: STM32 Family Web Page; ComponentLink3URL: www.st.com/stm32
footprint LQFP144_N (Thin QFP, 144-Leads, Body 20x20mm, Pitch 0.5mm, IPC Medium Density)
footprint LQFP144_L (Thin QFP, 144-Leads, Body 20x20mm, Pitch 0.5mm, IPC High Density)
footprint LQFP144_M (Thin QFP, 144-Leads, Body 20x20mm, Pitch 0.5mm, IPC Low Density)
part A pins: 1 PE2 (io), 2 PE3 (io), 3 PE4 (io), 4 PE5 (io), 5 PE6 (io), 7 PC13-TAMPER-RTC (io), 8 PC14-OSC32_IN (io), 9 PC15-OSC32_OUT (io), 10 PF0 (io), 11 PF1 (io), 12 PF2 (io), 13 PF3 (io), 14 PF4 (io), 15 PF5 (io), 18 PF6 (io), 19 PF7 (io), 20 PF8 (io), 21 PF9 (io), 22 PF10 (io), 23 OSC_IN (in), 24 OSC_OUT (out), 25 NRST (io), 26 PC0 (io), 27 PC1 (io), 28 PC2 (io), 29 PC3 (io), 34 PA0-WKUP (io), 35 PA1 (io), 36 PA2 (io), 37 PA3 (io), 40 PA4 (io), 41 PA5 (io), 42 PA6 (io), 43 PA7 (io), 44 PC4 (io), 45 PC5 (io), 46 PB0 (io), 47 PB1 (io), 48 PB2 (io), 49 PF11 (io), 50 PF12 (io), 53 PF13 (io), 54 PF14 (io), 55 PF15 (io), 56 PG0 (io), 57 PG1 (io), 58 PE7 (io), 59 PE8 (io), 60 PE9 (io), 63 PE10 (io), 64 PE11 (io), 65 PE12 (io), 66 PE13 (io), 67 PE14 (io), 68 PE15 (io), 69 PB10 (io), 70 PB11 (io), 73 PB12 (io), 74 PB13 (io), 75 PB14 (io), 76 PB15 (io), 77 PD8 (io), 78 PD9 (io), 79 PD10 (io), 80 PD11 (io), 81 PD12 (io), 82 PD13 (io), 85 PD14 (io), 86 PD15 (io), 87 PG2 (io), 88 PG3 (io), 89 PG4 (io), 90 PG5 (io), 91 PG6 (io), 92 PG7 (io), 93 PG8 (io), 96 PC6 (io), 97 PC7 (io), 98 PC8 (io), 99 PC9 (io), 100 PA8 (io), 101 PA9 (io), 102 PA10 (io), 103 PA11 (io), 104 PA12 (io), 105 PA13 (io), 109 PA14 (io), 110 PA15 (io), 111 PC10 (io), 112 PC11 (io), 113 PC12 (io), 114 PD0 (io), 115 PD1 (io), 116 PD2 (io), 117 PD3 (io), 118 PD4 (io), 119 PD5 (io), 122 PD6 (io), 123 PD7 (io), 124 PG9 (io), 125 PG10 (io), 126 PG11 (io), 127 PG12 (io), 128 PG13 (io), 129 PG14 (io), 132 PG15 (io), 133 PB3 (io), 134 PB4 (io), 135 PB5 (io), 136 PB6 (io), 137 PB7 (io), 138 BOOT0 (in), 139 PB8 (io), 140 PB9 (io), 141 PE0 (io), 142 PE1 (io)
part B pins: 6 VBAT (power), 16 VSS_5 (power), 17 VDD_5 (power), 30 VSSA (power), 31 VREF- (power), 32 VREF+ (power), 33 VDDA (power), 38 VSS_4 (power), 39 VDD_4 (power), 51 VSS_6 (power), 52 VDD_6 (power), 61 VSS_7 (power), 62 VDD_7 (power), 71 VSS_1 (power), 72 VDD_1 (power), 83 VSS_8 (power), 84 VDD_8 (power), 94 VSS_9 (power), 95 VDD_9 (power), 106 NC, 107 VSS_2 (power), 108 VDD_2 (power), 120 VSS_10 (power), 121 VDD_10 (power), 130 VSS_11 (power), 131 VDD_11 (power), 143 VSS_3 (power), 144 VDD_3 (power)

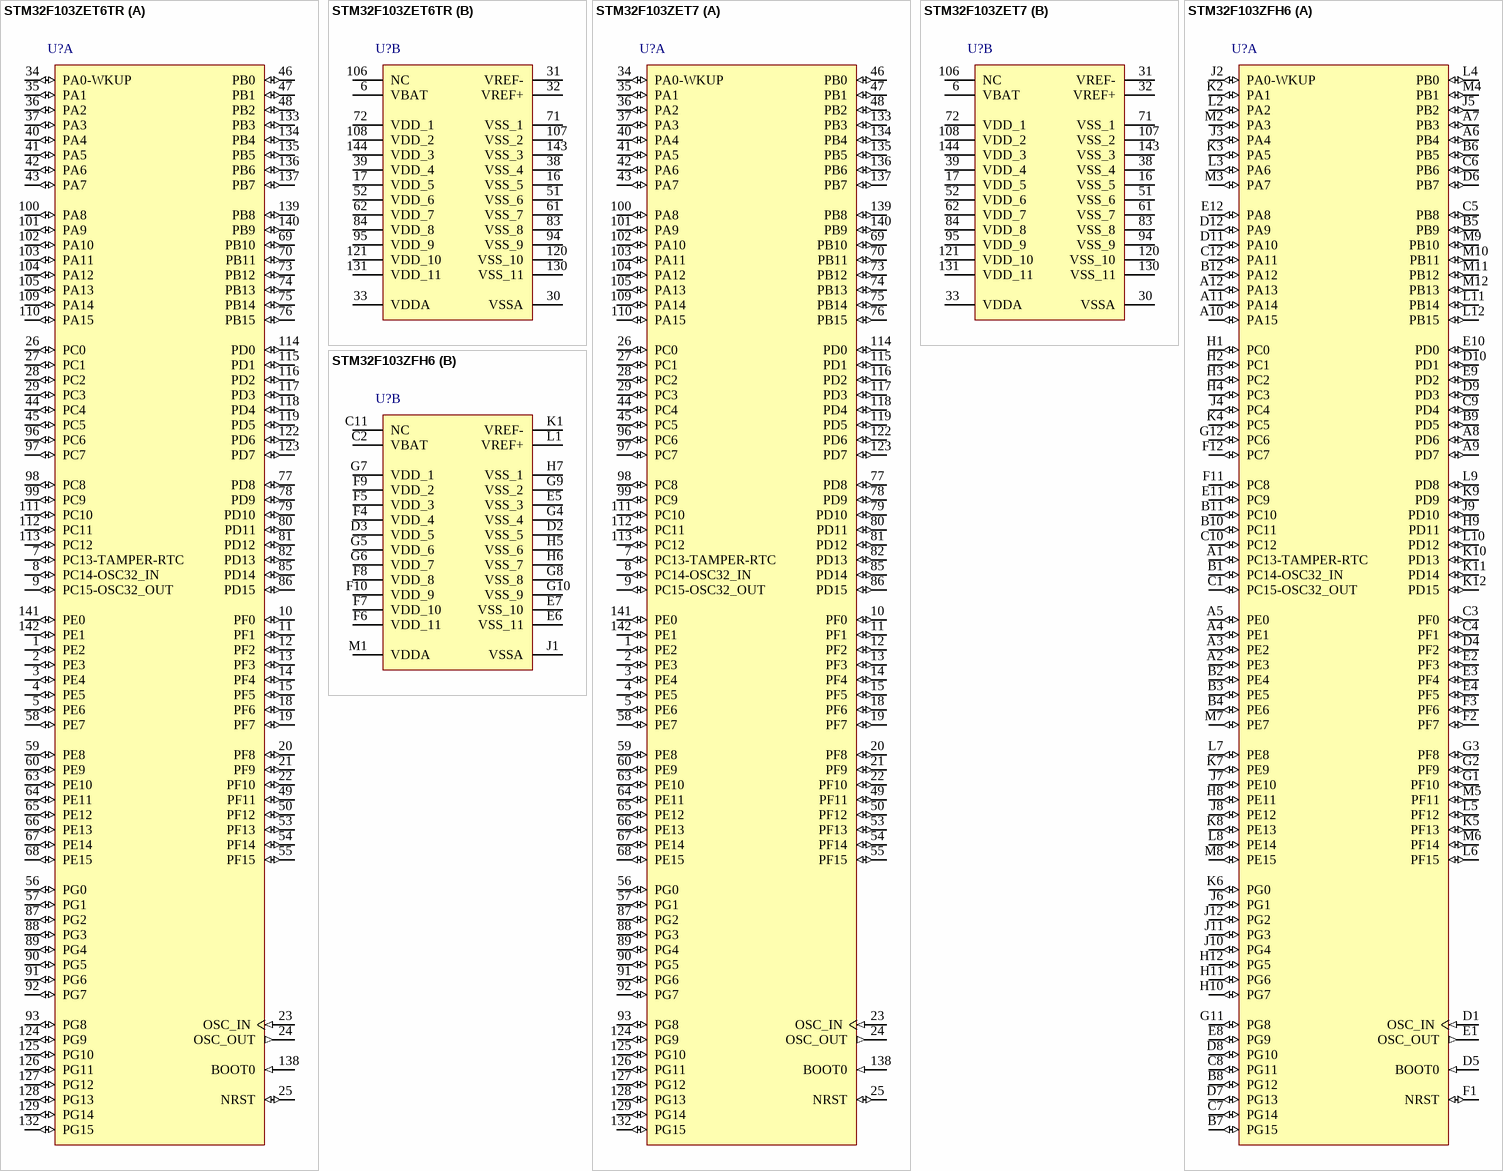
[diagram p46: symbols STM32F103ZET6TR to STM32F103ZFH6]

## STM32F103ZET6TR
designator U?
STM32 ARM-based 32-bit MCU Performance Line with 512 kB Flash, 64 kB Internal RAM, -40 to +85癈 Temperature, 144-Pin LQFP, Tape and Reel; 联系卖家，免费查找封装: 唯一出售店铺网址https://shop463601444.taobao.com; DatasheetVersion: rev8.0, Apr-2011; PackageVersion: 2011; PackageReference: LQFP144; PackageDescription: 144-Pin Thin Quad Flat Pack 0.5 mm Pitch; ComponentLink1Description: Manufacturer URL; ComponentLink1URL: http://www.st.com/; ComponentLink2Description: STM32F103 Datasheet; ComponentLink2URL: http://www.st.com/internet/com/TECHNICAL_RESOURCES/TECHNICAL_LITERATURE/DATASHEET/CD00191185.pdf; ComponentLink3Description: STM32 Family Web Page; ComponentLink3URL: www.st.com/stm32
footprint LQFP144_N (Thin QFP, 144-Leads, Body 20x20mm, Pitch 0.5mm, IPC Medium Density)
footprint LQFP144_L (Thin QFP, 144-Leads, Body 20x20mm, Pitch 0.5mm, IPC High Density)
footprint LQFP144_M (Thin QFP, 144-Leads, Body 20x20mm, Pitch 0.5mm, IPC Low Density)
part A pins: 1 PE2 (io), 2 PE3 (io), 3 PE4 (io), 4 PE5 (io), 5 PE6 (io), 7 PC13-TAMPER-RTC (io), 8 PC14-OSC32_IN (io), 9 PC15-OSC32_OUT (io), 10 PF0 (io), 11 PF1 (io), 12 PF2 (io), 13 PF3 (io), 14 PF4 (io), 15 PF5 (io), 18 PF6 (io), 19 PF7 (io), 20 PF8 (io), 21 PF9 (io), 22 PF10 (io), 23 OSC_IN (in), 24 OSC_OUT (out), 25 NRST (io), 26 PC0 (io), 27 PC1 (io), 28 PC2 (io), 29 PC3 (io), 34 PA0-WKUP (io), 35 PA1 (io), 36 PA2 (io), 37 PA3 (io), 40 PA4 (io), 41 PA5 (io), 42 PA6 (io), 43 PA7 (io), 44 PC4 (io), 45 PC5 (io), 46 PB0 (io), 47 PB1 (io), 48 PB2 (io), 49 PF11 (io), 50 PF12 (io), 53 PF13 (io), 54 PF14 (io), 55 PF15 (io), 56 PG0 (io), 57 PG1 (io), 58 PE7 (io), 59 PE8 (io), 60 PE9 (io), 63 PE10 (io), 64 PE11 (io), 65 PE12 (io), 66 PE13 (io), 67 PE14 (io), 68 PE15 (io), 69 PB10 (io), 70 PB11 (io), 73 PB12 (io), 74 PB13 (io), 75 PB14 (io), 76 PB15 (io), 77 PD8 (io), 78 PD9 (io), 79 PD10 (io), 80 PD11 (io), 81 PD12 (io), 82 PD13 (io), 85 PD14 (io), 86 PD15 (io), 87 PG2 (io), 88 PG3 (io), 89 PG4 (io), 90 PG5 (io), 91 PG6 (io), 92 PG7 (io), 93 PG8 (io), 96 PC6 (io), 97 PC7 (io), 98 PC8 (io), 99 PC9 (io), 100 PA8 (io), 101 PA9 (io), 102 PA10 (io), 103 PA11 (io), 104 PA12 (io), 105 PA13 (io), 109 PA14 (io), 110 PA15 (io), 111 PC10 (io), 112 PC11 (io), 113 PC12 (io), 114 PD0 (io), 115 PD1 (io), 116 PD2 (io), 117 PD3 (io), 118 PD4 (io), 119 PD5 (io), 122 PD6 (io), 123 PD7 (io), 124 PG9 (io), 125 PG10 (io), 126 PG11 (io), 127 PG12 (io), 128 PG13 (io), 129 PG14 (io), 132 PG15 (io), 133 PB3 (io), 134 PB4 (io), 135 PB5 (io), 136 PB6 (io), 137 PB7 (io), 138 BOOT0 (in), 139 PB8 (io), 140 PB9 (io), 141 PE0 (io), 142 PE1 (io)
part B pins: 6 VBAT (power), 16 VSS_5 (power), 17 VDD_5 (power), 30 VSSA (power), 31 VREF- (power), 32 VREF+ (power), 33 VDDA (power), 38 VSS_4 (power), 39 VDD_4 (power), 51 VSS_6 (power), 52 VDD_6 (power), 61 VSS_7 (power), 62 VDD_7 (power), 71 VSS_1 (power), 72 VDD_1 (power), 83 VSS_8 (power), 84 VDD_8 (power), 94 VSS_9 (power), 95 VDD_9 (power), 106 NC, 107 VSS_2 (power), 108 VDD_2 (power), 120 VSS_10 (power), 121 VDD_10 (power), 130 VSS_11 (power), 131 VDD_11 (power), 143 VSS_3 (power), 144 VDD_3 (power)

## STM32F103ZET7
designator U?
STM32 ARM-based 32-bit MCU Performance Line with 512 kB Flash, 64 kB Internal RAM, -40 to +105癈 Temperature, 144-Pin LQFP, Tray; 联系卖家，免费查找封装: 唯一出售店铺网址https://shop463601444.taobao.com; DatasheetVersion: rev8.0, Apr-2011; PackageVersion: 2011; PackageReference: LQFP144; PackageDescription: 144-Pin Thin Quad Flat Pack 0.5 mm Pitch; ComponentLink1Description: Manufacturer URL; ComponentLink1URL: http://www.st.com/; ComponentLink2Description: STM32F103 Datasheet; ComponentLink2URL: http://www.st.com/internet/com/TECHNICAL_RESOURCES/TECHNICAL_LITERATURE/DATASHEET/CD00191185.pdf; ComponentLink3Description: STM32 Family Web Page; ComponentLink3URL: www.st.com/stm32
footprint LQFP144_N (Thin QFP, 144-Leads, Body 20x20mm, Pitch 0.5mm, IPC Medium Density)
footprint LQFP144_L (Thin QFP, 144-Leads, Body 20x20mm, Pitch 0.5mm, IPC High Density)
footprint LQFP144_M (Thin QFP, 144-Leads, Body 20x20mm, Pitch 0.5mm, IPC Low Density)
part A pins: 1 PE2 (io), 2 PE3 (io), 3 PE4 (io), 4 PE5 (io), 5 PE6 (io), 7 PC13-TAMPER-RTC (io), 8 PC14-OSC32_IN (io), 9 PC15-OSC32_OUT (io), 10 PF0 (io), 11 PF1 (io), 12 PF2 (io), 13 PF3 (io), 14 PF4 (io), 15 PF5 (io), 18 PF6 (io), 19 PF7 (io), 20 PF8 (io), 21 PF9 (io), 22 PF10 (io), 23 OSC_IN (in), 24 OSC_OUT (out), 25 NRST (io), 26 PC0 (io), 27 PC1 (io), 28 PC2 (io), 29 PC3 (io), 34 PA0-WKUP (io), 35 PA1 (io), 36 PA2 (io), 37 PA3 (io), 40 PA4 (io), 41 PA5 (io), 42 PA6 (io), 43 PA7 (io), 44 PC4 (io), 45 PC5 (io), 46 PB0 (io), 47 PB1 (io), 48 PB2 (io), 49 PF11 (io), 50 PF12 (io), 53 PF13 (io), 54 PF14 (io), 55 PF15 (io), 56 PG0 (io), 57 PG1 (io), 58 PE7 (io), 59 PE8 (io), 60 PE9 (io), 63 PE10 (io), 64 PE11 (io), 65 PE12 (io), 66 PE13 (io), 67 PE14 (io), 68 PE15 (io), 69 PB10 (io), 70 PB11 (io), 73 PB12 (io), 74 PB13 (io), 75 PB14 (io), 76 PB15 (io), 77 PD8 (io), 78 PD9 (io), 79 PD10 (io), 80 PD11 (io), 81 PD12 (io), 82 PD13 (io), 85 PD14 (io), 86 PD15 (io), 87 PG2 (io), 88 PG3 (io), 89 PG4 (io), 90 PG5 (io), 91 PG6 (io), 92 PG7 (io), 93 PG8 (io), 96 PC6 (io), 97 PC7 (io), 98 PC8 (io), 99 PC9 (io), 100 PA8 (io), 101 PA9 (io), 102 PA10 (io), 103 PA11 (io), 104 PA12 (io), 105 PA13 (io), 109 PA14 (io), 110 PA15 (io), 111 PC10 (io), 112 PC11 (io), 113 PC12 (io), 114 PD0 (io), 115 PD1 (io), 116 PD2 (io), 117 PD3 (io), 118 PD4 (io), 119 PD5 (io), 122 PD6 (io), 123 PD7 (io), 124 PG9 (io), 125 PG10 (io), 126 PG11 (io), 127 PG12 (io), 128 PG13 (io), 129 PG14 (io), 132 PG15 (io), 133 PB3 (io), 134 PB4 (io), 135 PB5 (io), 136 PB6 (io), 137 PB7 (io), 138 BOOT0 (in), 139 PB8 (io), 140 PB9 (io), 141 PE0 (io), 142 PE1 (io)
part B pins: 6 VBAT (power), 16 VSS_5 (power), 17 VDD_5 (power), 30 VSSA (power), 31 VREF- (power), 32 VREF+ (power), 33 VDDA (power), 38 VSS_4 (power), 39 VDD_4 (power), 51 VSS_6 (power), 52 VDD_6 (power), 61 VSS_7 (power), 62 VDD_7 (power), 71 VSS_1 (power), 72 VDD_1 (power), 83 VSS_8 (power), 84 VDD_8 (power), 94 VSS_9 (power), 95 VDD_9 (power), 106 NC, 107 VSS_2 (power), 108 VDD_2 (power), 120 VSS_10 (power), 121 VDD_10 (power), 130 VSS_11 (power), 131 VDD_11 (power), 143 VSS_3 (power), 144 VDD_3 (power)

## STM32F103ZFH6
designator U?
STM32 ARM-based 32-bit MCU Performance Line with 768 kB Flash, 96 kB Internal RAM, -40 to +85癈 Temperature, 144-Pin LFBGA, Tray; 联系卖家，免费查找封装: 唯一出售店铺网址https://shop463601444.taobao.com; DatasheetVersion: rev2.0, Nov-2010; PackageVersion: rev13, Apr-2011; PackageReference: LFBGA144; PackageDescription: 144-Ball Low Profile Fine Pitch BGA, 10 x 10 x 1.7 mm Body, 0.8 mm Pitch (LFBGA144); ComponentLink1Description: Manufacturer URL; ComponentLink1URL: http://www.st.com/; ComponentLink2Description: STM32F103 Datasheet; ComponentLink2URL: http://www.st.com/internet/com/TECHNICAL_RESOURCES/TECHNICAL_LITERATURE/DATASHEET/CD00253742.pdf; ComponentLink3Description: STM32 Family Web Page; ComponentLink3URL: www.st.com/stm32
footprint LFBGA144 (BGA, 144-Leads, Body 10x10mm, Pitch 0.8mm)
part A pins: A1 PC13-TAMPER-RTC (io), A2 PE3 (io), A3 PE2 (io), A4 PE1 (io), A5 PE0 (io), A6 PB4 (io), A7 PB3 (io), A8 PD6 (io), A9 PD7 (io), A10 PA15 (io), A11 PA14 (io), A12 PA13 (io), B1 PC14-OSC32_IN (io), B2 PE4 (io), B3 PE5 (io), B4 PE6 (io), B5 PB9 (io), B6 PB5 (io), B7 PG15 (io), B8 PG12 (io), B9 PD5 (io), B10 PC11 (io), B11 PC10 (io), B12 PA12 (io), C1 PC15-OSC32_OUT (io), C3 PF0 (io), C4 PF1 (io), C5 PB8 (io), C6 PB6 (io), C7 PG14 (io), C8 PG11 (io), C9 PD4 (io), C10 PC12 (io), C12 PA11 (io), D1 OSC_IN (in), D4 PF2 (io), D5 BOOT0 (in), D6 PB7 (io), D7 PG13 (io), D8 PG10 (io), D9 PD3 (io), D10 PD1 (io), D11 PA10 (io), D12 PA9 (io), E1 OSC_OUT (out), E2 PF3 (io), E3 PF4 (io), E4 PF5 (io), E8 PG9 (io), E9 PD2 (io), E10 PD0 (io), E11 PC9 (io), E12 PA8 (io), F1 NRST (io), F2 PF7 (io), F3 PF6 (io), F11 PC8 (io), F12 PC7 (io), G1 PF10 (io), G2 PF9 (io), G3 PF8 (io), G11 PG8 (io), G12 PC6 (io), H1 PC0 (io), H2 PC1 (io), H3 PC2 (io), H4 PC3 (io), H8 PE11 (io), H9 PD11 (io), H10 PG7 (io), H11 PG6 (io), H12 PG5 (io), J2 PA0-WKUP (io), J3 PA4 (io), J4 PC4 (io), J5 PB2 (io), J6 PG1 (io), J7 PE10 (io), J8 PE12 (io), J9 PD10 (io), J10 PG4 (io), J11 PG3 (io), J12 PG2 (io), K2 PA1 (io), K3 PA5 (io), K4 PC5 (io), K5 PF13 (io), K6 PG0 (io), K7 PE9 (io), K8 PE13 (io), K9 PD9 (io), K10 PD13 (io), K11 PD14 (io), K12 PD15 (io), L2 PA2 (io), L3 PA6 (io), L4 PB0 (io), L5 PF12 (io), L6 PF15 (io), L7 PE8 (io), L8 PE14 (io), L9 PD8 (io), L10 PD12 (io), L11 PB14 (io), L12 PB15 (io), M2 PA3 (io), M3 PA7 (io), M4 PB1 (io), M5 PF11 (io), M6 PF14 (io), M7 PE7 (io), M8 PE15 (io), M9 PB10 (io), M10 PB11 (io), M11 PB12 (io), M12 PB13 (io)
part B pins: C2 VBAT (power), C11 NC, D2 VSS_5 (power), D3 VDD_5 (power), E5 VSS_3 (power), E6 VSS_11 (power), E7 VSS_10 (power), F4 VDD_4 (power), F5 VDD_3 (power), F6 VDD_11 (power), F7 VDD_10 (power), F8 VDD_8 (power), F9 VDD_2 (power), F10 VDD_9 (power), G4 VSS_4 (power), G5 VDD_6 (power), G6 VDD_7 (power), G7 VDD_1 (power), G8 VSS_8 (power), G9 VSS_2 (power), G10 VSS_9 (power), H5 VSS_6 (power), H6 VSS_7 (power), H7 VSS_1 (power), J1 VSSA (power), K1 VREF- (power), L1 VREF+ (power), M1 VDDA (power)

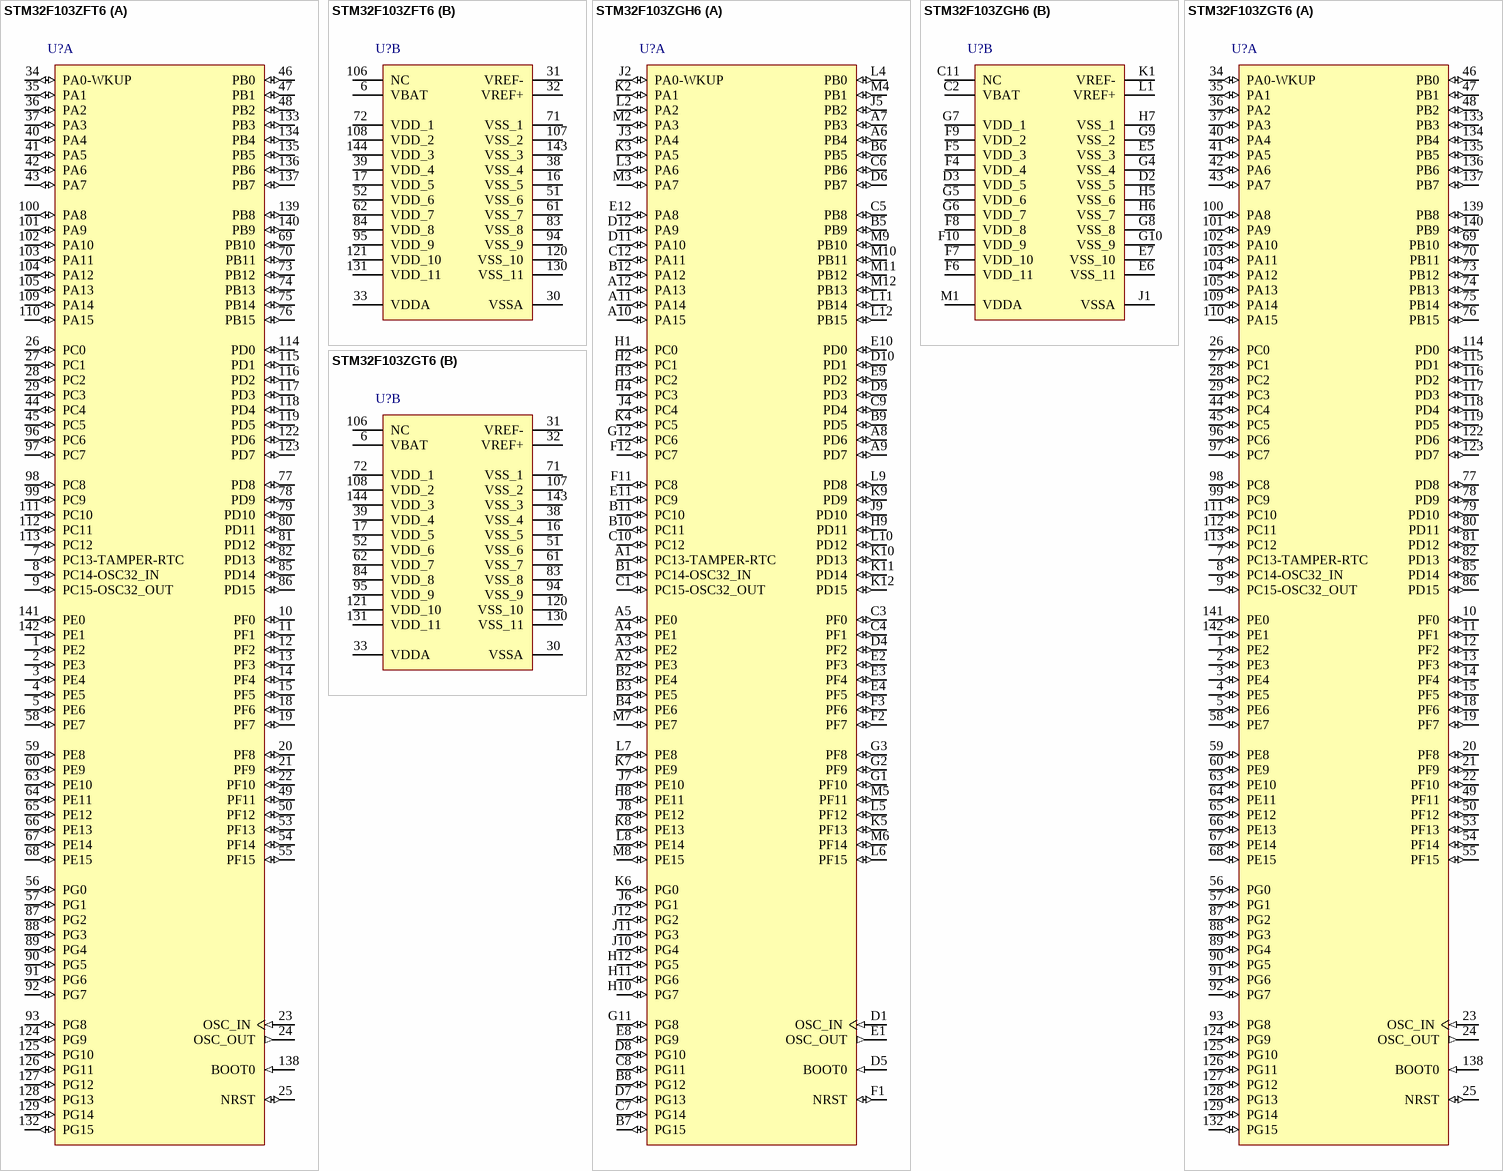
[diagram p47: symbols STM32F103ZFT6 to STM32F103ZGT6]

## STM32F103ZFT6
designator U?
STM32 ARM-based 32-bit MCU Performance Line with 768 kB Flash, 96 kB Internal RAM, -40 to +85癈 Temperature, 144-Pin LQFP, Tray; 联系卖家，免费查找封装: 唯一出售店铺网址https://shop463601444.taobao.com; DatasheetVersion: rev2.0, Nov-2010; PackageVersion: 2011; PackageReference: LQFP144; PackageDescription: 144-Pin Thin Quad Flat Pack 0.5 mm Pitch; ComponentLink1Description: Manufacturer URL; ComponentLink1URL: http://www.st.com/; ComponentLink2Description: STM32F103 Datasheet; ComponentLink2URL: http://www.st.com/internet/com/TECHNICAL_RESOURCES/TECHNICAL_LITERATURE/DATASHEET/CD00253742.pdf; ComponentLink3Description: STM32 Family Web Page; ComponentLink3URL: www.st.com/stm32
footprint LQFP144_N (Thin QFP, 144-Leads, Body 20x20mm, Pitch 0.5mm, IPC Medium Density)
footprint LQFP144_L (Thin QFP, 144-Leads, Body 20x20mm, Pitch 0.5mm, IPC High Density)
footprint LQFP144_M (Thin QFP, 144-Leads, Body 20x20mm, Pitch 0.5mm, IPC Low Density)
part A pins: 1 PE2 (io), 2 PE3 (io), 3 PE4 (io), 4 PE5 (io), 5 PE6 (io), 7 PC13-TAMPER-RTC (io), 8 PC14-OSC32_IN (io), 9 PC15-OSC32_OUT (io), 10 PF0 (io), 11 PF1 (io), 12 PF2 (io), 13 PF3 (io), 14 PF4 (io), 15 PF5 (io), 18 PF6 (io), 19 PF7 (io), 20 PF8 (io), 21 PF9 (io), 22 PF10 (io), 23 OSC_IN (in), 24 OSC_OUT (out), 25 NRST (io), 26 PC0 (io), 27 PC1 (io), 28 PC2 (io), 29 PC3 (io), 34 PA0-WKUP (io), 35 PA1 (io), 36 PA2 (io), 37 PA3 (io), 40 PA4 (io), 41 PA5 (io), 42 PA6 (io), 43 PA7 (io), 44 PC4 (io), 45 PC5 (io), 46 PB0 (io), 47 PB1 (io), 48 PB2 (io), 49 PF11 (io), 50 PF12 (io), 53 PF13 (io), 54 PF14 (io), 55 PF15 (io), 56 PG0 (io), 57 PG1 (io), 58 PE7 (io), 59 PE8 (io), 60 PE9 (io), 63 PE10 (io), 64 PE11 (io), 65 PE12 (io), 66 PE13 (io), 67 PE14 (io), 68 PE15 (io), 69 PB10 (io), 70 PB11 (io), 73 PB12 (io), 74 PB13 (io), 75 PB14 (io), 76 PB15 (io), 77 PD8 (io), 78 PD9 (io), 79 PD10 (io), 80 PD11 (io), 81 PD12 (io), 82 PD13 (io), 85 PD14 (io), 86 PD15 (io), 87 PG2 (io), 88 PG3 (io), 89 PG4 (io), 90 PG5 (io), 91 PG6 (io), 92 PG7 (io), 93 PG8 (io), 96 PC6 (io), 97 PC7 (io), 98 PC8 (io), 99 PC9 (io), 100 PA8 (io), 101 PA9 (io), 102 PA10 (io), 103 PA11 (io), 104 PA12 (io), 105 PA13 (io), 109 PA14 (io), 110 PA15 (io), 111 PC10 (io), 112 PC11 (io), 113 PC12 (io), 114 PD0 (io), 115 PD1 (io), 116 PD2 (io), 117 PD3 (io), 118 PD4 (io), 119 PD5 (io), 122 PD6 (io), 123 PD7 (io), 124 PG9 (io), 125 PG10 (io), 126 PG11 (io), 127 PG12 (io), 128 PG13 (io), 129 PG14 (io), 132 PG15 (io), 133 PB3 (io), 134 PB4 (io), 135 PB5 (io), 136 PB6 (io), 137 PB7 (io), 138 BOOT0 (in), 139 PB8 (io), 140 PB9 (io), 141 PE0 (io), 142 PE1 (io)
part B pins: 6 VBAT (power), 16 VSS_5 (power), 17 VDD_5 (power), 30 VSSA (power), 31 VREF- (power), 32 VREF+ (power), 33 VDDA (power), 38 VSS_4 (power), 39 VDD_4 (power), 51 VSS_6 (power), 52 VDD_6 (power), 61 VSS_7 (power), 62 VDD_7 (power), 71 VSS_1 (power), 72 VDD_1 (power), 83 VSS_8 (power), 84 VDD_8 (power), 94 VSS_9 (power), 95 VDD_9 (power), 106 NC, 107 VSS_2 (power), 108 VDD_2 (power), 120 VSS_10 (power), 121 VDD_10 (power), 130 VSS_11 (power), 131 VDD_11 (power), 143 VSS_3 (power), 144 VDD_3 (power)

## STM32F103ZGH6
designator U?
STM32 ARM-based 32-bit MCU Performance Line with 1024 kB Flash, 96 kB Internal RAM, -40 to +85癈 Temperature, 144-Pin LFBGA, Tray; 联系卖家，免费查找封装: 唯一出售店铺网址https://shop463601444.taobao.com; DatasheetVersion: rev2.0, Nov-2010; PackageVersion: rev13, Apr-2011; PackageReference: LFBGA144; PackageDescription: 144-Ball Low Profile Fine Pitch BGA, 10 x 10 x 1.7 mm Body, 0.8 mm Pitch (LFBGA144); ComponentLink1Description: Manufacturer URL; ComponentLink1URL: http://www.st.com/; ComponentLink2Description: STM32F103 Datasheet; ComponentLink2URL: http://www.st.com/internet/com/TECHNICAL_RESOURCES/TECHNICAL_LITERATURE/DATASHEET/CD00253742.pdf; ComponentLink3Description: STM32 Family Web Page; ComponentLink3URL: www.st.com/stm32
footprint LFBGA144 (BGA, 144-Leads, Body 10x10mm, Pitch 0.8mm)
part A pins: A1 PC13-TAMPER-RTC (io), A2 PE3 (io), A3 PE2 (io), A4 PE1 (io), A5 PE0 (io), A6 PB4 (io), A7 PB3 (io), A8 PD6 (io), A9 PD7 (io), A10 PA15 (io), A11 PA14 (io), A12 PA13 (io), B1 PC14-OSC32_IN (io), B2 PE4 (io), B3 PE5 (io), B4 PE6 (io), B5 PB9 (io), B6 PB5 (io), B7 PG15 (io), B8 PG12 (io), B9 PD5 (io), B10 PC11 (io), B11 PC10 (io), B12 PA12 (io), C1 PC15-OSC32_OUT (io), C3 PF0 (io), C4 PF1 (io), C5 PB8 (io), C6 PB6 (io), C7 PG14 (io), C8 PG11 (io), C9 PD4 (io), C10 PC12 (io), C12 PA11 (io), D1 OSC_IN (in), D4 PF2 (io), D5 BOOT0 (in), D6 PB7 (io), D7 PG13 (io), D8 PG10 (io), D9 PD3 (io), D10 PD1 (io), D11 PA10 (io), D12 PA9 (io), E1 OSC_OUT (out), E2 PF3 (io), E3 PF4 (io), E4 PF5 (io), E8 PG9 (io), E9 PD2 (io), E10 PD0 (io), E11 PC9 (io), E12 PA8 (io), F1 NRST (io), F2 PF7 (io), F3 PF6 (io), F11 PC8 (io), F12 PC7 (io), G1 PF10 (io), G2 PF9 (io), G3 PF8 (io), G11 PG8 (io), G12 PC6 (io), H1 PC0 (io), H2 PC1 (io), H3 PC2 (io), H4 PC3 (io), H8 PE11 (io), H9 PD11 (io), H10 PG7 (io), H11 PG6 (io), H12 PG5 (io), J2 PA0-WKUP (io), J3 PA4 (io), J4 PC4 (io), J5 PB2 (io), J6 PG1 (io), J7 PE10 (io), J8 PE12 (io), J9 PD10 (io), J10 PG4 (io), J11 PG3 (io), J12 PG2 (io), K2 PA1 (io), K3 PA5 (io), K4 PC5 (io), K5 PF13 (io), K6 PG0 (io), K7 PE9 (io), K8 PE13 (io), K9 PD9 (io), K10 PD13 (io), K11 PD14 (io), K12 PD15 (io), L2 PA2 (io), L3 PA6 (io), L4 PB0 (io), L5 PF12 (io), L6 PF15 (io), L7 PE8 (io), L8 PE14 (io), L9 PD8 (io), L10 PD12 (io), L11 PB14 (io), L12 PB15 (io), M2 PA3 (io), M3 PA7 (io), M4 PB1 (io), M5 PF11 (io), M6 PF14 (io), M7 PE7 (io), M8 PE15 (io), M9 PB10 (io), M10 PB11 (io), M11 PB12 (io), M12 PB13 (io)
part B pins: C2 VBAT (power), C11 NC, D2 VSS_5 (power), D3 VDD_5 (power), E5 VSS_3 (power), E6 VSS_11 (power), E7 VSS_10 (power), F4 VDD_4 (power), F5 VDD_3 (power), F6 VDD_11 (power), F7 VDD_10 (power), F8 VDD_8 (power), F9 VDD_2 (power), F10 VDD_9 (power), G4 VSS_4 (power), G5 VDD_6 (power), G6 VDD_7 (power), G7 VDD_1 (power), G8 VSS_8 (power), G9 VSS_2 (power), G10 VSS_9 (power), H5 VSS_6 (power), H6 VSS_7 (power), H7 VSS_1 (power), J1 VSSA (power), K1 VREF- (power), L1 VREF+ (power), M1 VDDA (power)

## STM32F103ZGT6
designator U?
STM32 ARM-based 32-bit MCU Performance Line with 1024 kB Flash, 96 kB Internal RAM, -40 to +85癈 Temperature, 144-Pin LQFP, Tray; 联系卖家，免费查找封装: 唯一出售店铺网址https://shop463601444.taobao.com; DatasheetVersion: rev2.0, Nov-2010; PackageVersion: 2011; PackageReference: LQFP144; PackageDescription: 144-Pin Thin Quad Flat Pack 0.5 mm Pitch; ComponentLink1Description: Manufacturer URL; ComponentLink1URL: http://www.st.com/; ComponentLink2Description: STM32F103 Datasheet; ComponentLink2URL: http://www.st.com/internet/com/TECHNICAL_RESOURCES/TECHNICAL_LITERATURE/DATASHEET/CD00253742.pdf; ComponentLink3Description: STM32 Family Web Page; ComponentLink3URL: www.st.com/stm32
footprint LQFP144_N (Thin QFP, 144-Leads, Body 20x20mm, Pitch 0.5mm, IPC Medium Density)
footprint LQFP144_L (Thin QFP, 144-Leads, Body 20x20mm, Pitch 0.5mm, IPC High Density)
footprint LQFP144_M (Thin QFP, 144-Leads, Body 20x20mm, Pitch 0.5mm, IPC Low Density)
part A pins: 1 PE2 (io), 2 PE3 (io), 3 PE4 (io), 4 PE5 (io), 5 PE6 (io), 7 PC13-TAMPER-RTC (io), 8 PC14-OSC32_IN (io), 9 PC15-OSC32_OUT (io), 10 PF0 (io), 11 PF1 (io), 12 PF2 (io), 13 PF3 (io), 14 PF4 (io), 15 PF5 (io), 18 PF6 (io), 19 PF7 (io), 20 PF8 (io), 21 PF9 (io), 22 PF10 (io), 23 OSC_IN (in), 24 OSC_OUT (out), 25 NRST (io), 26 PC0 (io), 27 PC1 (io), 28 PC2 (io), 29 PC3 (io), 34 PA0-WKUP (io), 35 PA1 (io), 36 PA2 (io), 37 PA3 (io), 40 PA4 (io), 41 PA5 (io), 42 PA6 (io), 43 PA7 (io), 44 PC4 (io), 45 PC5 (io), 46 PB0 (io), 47 PB1 (io), 48 PB2 (io), 49 PF11 (io), 50 PF12 (io), 53 PF13 (io), 54 PF14 (io), 55 PF15 (io), 56 PG0 (io), 57 PG1 (io), 58 PE7 (io), 59 PE8 (io), 60 PE9 (io), 63 PE10 (io), 64 PE11 (io), 65 PE12 (io), 66 PE13 (io), 67 PE14 (io), 68 PE15 (io), 69 PB10 (io), 70 PB11 (io), 73 PB12 (io), 74 PB13 (io), 75 PB14 (io), 76 PB15 (io), 77 PD8 (io), 78 PD9 (io), 79 PD10 (io), 80 PD11 (io), 81 PD12 (io), 82 PD13 (io), 85 PD14 (io), 86 PD15 (io), 87 PG2 (io), 88 PG3 (io), 89 PG4 (io), 90 PG5 (io), 91 PG6 (io), 92 PG7 (io), 93 PG8 (io), 96 PC6 (io), 97 PC7 (io), 98 PC8 (io), 99 PC9 (io), 100 PA8 (io), 101 PA9 (io), 102 PA10 (io), 103 PA11 (io), 104 PA12 (io), 105 PA13 (io), 109 PA14 (io), 110 PA15 (io), 111 PC10 (io), 112 PC11 (io), 113 PC12 (io), 114 PD0 (io), 115 PD1 (io), 116 PD2 (io), 117 PD3 (io), 118 PD4 (io), 119 PD5 (io), 122 PD6 (io), 123 PD7 (io), 124 PG9 (io), 125 PG10 (io), 126 PG11 (io), 127 PG12 (io), 128 PG13 (io), 129 PG14 (io), 132 PG15 (io), 133 PB3 (io), 134 PB4 (io), 135 PB5 (io), 136 PB6 (io), 137 PB7 (io), 138 BOOT0 (in), 139 PB8 (io), 140 PB9 (io), 141 PE0 (io), 142 PE1 (io)
part B pins: 6 VBAT (power), 16 VSS_5 (power), 17 VDD_5 (power), 30 VSSA (power), 31 VREF- (power), 32 VREF+ (power), 33 VDDA (power), 38 VSS_4 (power), 39 VDD_4 (power), 51 VSS_6 (power), 52 VDD_6 (power), 61 VSS_7 (power), 62 VDD_7 (power), 71 VSS_1 (power), 72 VDD_1 (power), 83 VSS_8 (power), 84 VDD_8 (power), 94 VSS_9 (power), 95 VDD_9 (power), 106 NC, 107 VSS_2 (power), 108 VDD_2 (power), 120 VSS_10 (power), 121 VDD_10 (power), 130 VSS_11 (power), 131 VDD_11 (power), 143 VSS_3 (power), 144 VDD_3 (power)

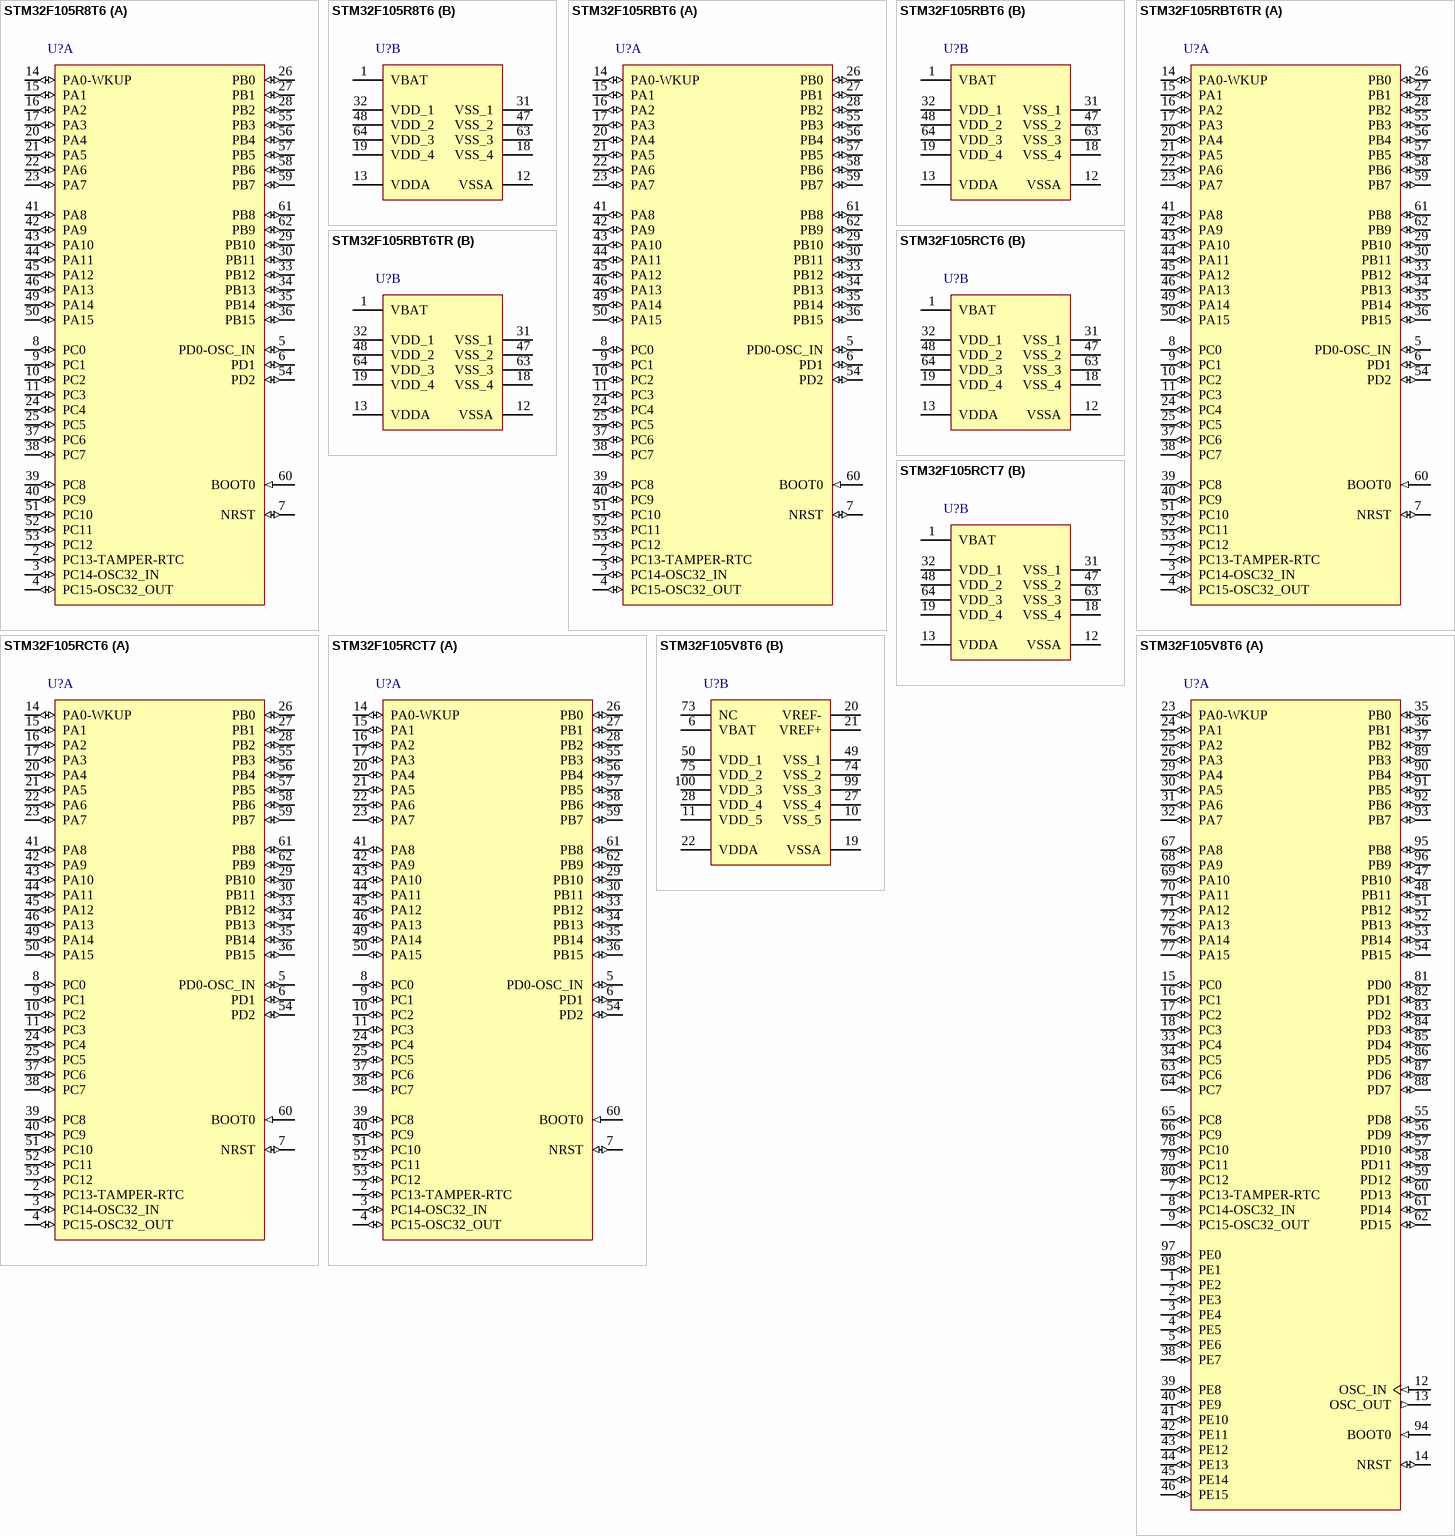
[diagram p48: symbols STM32F105R8T6 to STM32F105V8T6]

## STM32F105R8T6
designator U?
STM32 ARM-based 32-bit MCU Connectivity Line with 64 kB Flash, 20 kB Internal RAM, -40 to +85癈 Temperature, 64-Pin LQFP, Tray; 联系卖家，免费查找封装: 唯一出售店铺网址https://shop463601444.taobao.com; DatasheetVersion: rev5.0, May-2010; PackageVersion: rev13, Apr-2011; PackageReference: LQFP64; PackageDescription: 64-Pin Low-Profile Quad Flat Pack, 10 x 10 mm Body, 0.5 mm Pitch (LQFP64); ComponentLink1Description: Manufacturer URL; ComponentLink1URL: http://www.st.com/; ComponentLink2Description: STM32F105/107 Datasheet; ComponentLink2URL: http://www.st.com/internet/com/TECHNICAL_RESOURCES/TECHNICAL_LITERATURE/DATASHEET/CD00220364.pdf; ComponentLink3Description: STM32 Family Web Page; ComponentLink3URL: www.st.com/stm32
footprint LQFP64_N (Thin QFP, 64-Leads, Body 10x10mm, Pitch 0.5mm, IPC Medium Density)
footprint LQFP64_L (Thin QFP, 64-Leads, Body 10x10mm, Pitch 0.5mm, IPC High Density)
footprint LQFP64_M (Thin QFP, 64-Leads, Body 10x10mm, Pitch 0.5mm, IPC Low Density)
part A pins: 2 PC13-TAMPER-RTC (io), 3 PC14-OSC32_IN (io), 4 PC15-OSC32_OUT (io), 5 PD0-OSC_IN (io), 6 PD1 (io), 7 NRST (io), 8 PC0 (io), 9 PC1 (io), 10 PC2 (io), 11 PC3 (io), 14 PA0-WKUP (io), 15 PA1 (io), 16 PA2 (io), 17 PA3 (io), 20 PA4 (io), 21 PA5 (io), 22 PA6 (io), 23 PA7 (io), 24 PC4 (io), 25 PC5 (io), 26 PB0 (io), 27 PB1 (io), 28 PB2 (io), 29 PB10 (io), 30 PB11 (io), 33 PB12 (io), 34 PB13 (io), 35 PB14 (io), 36 PB15 (io), 37 PC6 (io), 38 PC7 (io), 39 PC8 (io), 40 PC9 (io), 41 PA8 (io), 42 PA9 (io), 43 PA10 (io), 44 PA11 (io), 45 PA12 (io), 46 PA13 (io), 49 PA14 (io), 50 PA15 (io), 51 PC10 (io), 52 PC11 (io), 53 PC12 (io), 54 PD2 (io), 55 PB3 (io), 56 PB4 (io), 57 PB5 (io), 58 PB6 (io), 59 PB7 (io), 60 BOOT0 (in), 61 PB8 (io), 62 PB9 (io)
part B pins: 1 VBAT (power), 12 VSSA (power), 13 VDDA (power), 18 VSS_4 (power), 19 VDD_4 (power), 31 VSS_1 (power), 32 VDD_1 (power), 47 VSS_2 (power), 48 VDD_2 (power), 63 VSS_3 (power), 64 VDD_3 (power)

## STM32F105RBT6
designator U?
STM32 ARM-based 32-bit MCU Connectivity Line with 128 kB Flash, 32 kB Internal RAM, -40 to +85癈 Temperature, 64-Pin LQFP, Tray; 联系卖家，免费查找封装: 唯一出售店铺网址https://shop463601444.taobao.com; DatasheetVersion: rev5.0, May-2010; PackageVersion: rev13, Apr-2011; PackageReference: LQFP64; PackageDescription: 64-Pin Low-Profile Quad Flat Pack, 10 x 10 mm Body, 0.5 mm Pitch (LQFP64); ComponentLink1Description: Manufacturer URL; ComponentLink1URL: http://www.st.com/; ComponentLink2Description: STM32F105/107 Datasheet; ComponentLink2URL: http://www.st.com/internet/com/TECHNICAL_RESOURCES/TECHNICAL_LITERATURE/DATASHEET/CD00220364.pdf; ComponentLink3Description: STM32 Family Web Page; ComponentLink3URL: www.st.com/stm32
footprint LQFP64_N (Thin QFP, 64-Leads, Body 10x10mm, Pitch 0.5mm, IPC Medium Density)
footprint LQFP64_L (Thin QFP, 64-Leads, Body 10x10mm, Pitch 0.5mm, IPC High Density)
footprint LQFP64_M (Thin QFP, 64-Leads, Body 10x10mm, Pitch 0.5mm, IPC Low Density)
part A pins: 2 PC13-TAMPER-RTC (io), 3 PC14-OSC32_IN (io), 4 PC15-OSC32_OUT (io), 5 PD0-OSC_IN (io), 6 PD1 (io), 7 NRST (io), 8 PC0 (io), 9 PC1 (io), 10 PC2 (io), 11 PC3 (io), 14 PA0-WKUP (io), 15 PA1 (io), 16 PA2 (io), 17 PA3 (io), 20 PA4 (io), 21 PA5 (io), 22 PA6 (io), 23 PA7 (io), 24 PC4 (io), 25 PC5 (io), 26 PB0 (io), 27 PB1 (io), 28 PB2 (io), 29 PB10 (io), 30 PB11 (io), 33 PB12 (io), 34 PB13 (io), 35 PB14 (io), 36 PB15 (io), 37 PC6 (io), 38 PC7 (io), 39 PC8 (io), 40 PC9 (io), 41 PA8 (io), 42 PA9 (io), 43 PA10 (io), 44 PA11 (io), 45 PA12 (io), 46 PA13 (io), 49 PA14 (io), 50 PA15 (io), 51 PC10 (io), 52 PC11 (io), 53 PC12 (io), 54 PD2 (io), 55 PB3 (io), 56 PB4 (io), 57 PB5 (io), 58 PB6 (io), 59 PB7 (io), 60 BOOT0 (in), 61 PB8 (io), 62 PB9 (io)
part B pins: 1 VBAT (power), 12 VSSA (power), 13 VDDA (power), 18 VSS_4 (power), 19 VDD_4 (power), 31 VSS_1 (power), 32 VDD_1 (power), 47 VSS_2 (power), 48 VDD_2 (power), 63 VSS_3 (power), 64 VDD_3 (power)

## STM32F105RBT6TR
designator U?
STM32 ARM-based 32-bit MCU Connectivity Line with 128 kB Flash, 32 kB Internal RAM, -40 to +85癈 Temperature, 64-Pin LQFP, Tape and Reel; 联系卖家，免费查找封装: 唯一出售店铺网址https://shop463601444.taobao.com; DatasheetVersion: rev5.0, May-2010; PackageVersion: rev13, Apr-2011; PackageReference: LQFP64; PackageDescription: 64-Pin Low-Profile Quad Flat Pack, 10 x 10 mm Body, 0.5 mm Pitch (LQFP64); ComponentLink1Description: Manufacturer URL; ComponentLink1URL: http://www.st.com/; ComponentLink2Description: STM32F105/107 Datasheet; ComponentLink2URL: http://www.st.com/internet/com/TECHNICAL_RESOURCES/TECHNICAL_LITERATURE/DATASHEET/CD00220364.pdf; ComponentLink3Description: STM32 Family Web Page; ComponentLink3URL: www.st.com/stm32
footprint LQFP64_N (Thin QFP, 64-Leads, Body 10x10mm, Pitch 0.5mm, IPC Medium Density)
footprint LQFP64_L (Thin QFP, 64-Leads, Body 10x10mm, Pitch 0.5mm, IPC High Density)
footprint LQFP64_M (Thin QFP, 64-Leads, Body 10x10mm, Pitch 0.5mm, IPC Low Density)
part A pins: 2 PC13-TAMPER-RTC (io), 3 PC14-OSC32_IN (io), 4 PC15-OSC32_OUT (io), 5 PD0-OSC_IN (io), 6 PD1 (io), 7 NRST (io), 8 PC0 (io), 9 PC1 (io), 10 PC2 (io), 11 PC3 (io), 14 PA0-WKUP (io), 15 PA1 (io), 16 PA2 (io), 17 PA3 (io), 20 PA4 (io), 21 PA5 (io), 22 PA6 (io), 23 PA7 (io), 24 PC4 (io), 25 PC5 (io), 26 PB0 (io), 27 PB1 (io), 28 PB2 (io), 29 PB10 (io), 30 PB11 (io), 33 PB12 (io), 34 PB13 (io), 35 PB14 (io), 36 PB15 (io), 37 PC6 (io), 38 PC7 (io), 39 PC8 (io), 40 PC9 (io), 41 PA8 (io), 42 PA9 (io), 43 PA10 (io), 44 PA11 (io), 45 PA12 (io), 46 PA13 (io), 49 PA14 (io), 50 PA15 (io), 51 PC10 (io), 52 PC11 (io), 53 PC12 (io), 54 PD2 (io), 55 PB3 (io), 56 PB4 (io), 57 PB5 (io), 58 PB6 (io), 59 PB7 (io), 60 BOOT0 (in), 61 PB8 (io), 62 PB9 (io)
part B pins: 1 VBAT (power), 12 VSSA (power), 13 VDDA (power), 18 VSS_4 (power), 19 VDD_4 (power), 31 VSS_1 (power), 32 VDD_1 (power), 47 VSS_2 (power), 48 VDD_2 (power), 63 VSS_3 (power), 64 VDD_3 (power)